# Altium schematic symbol library LimeMicroAltiumLib_schLib.SchLib: 177 symbols (part 5 of 8)
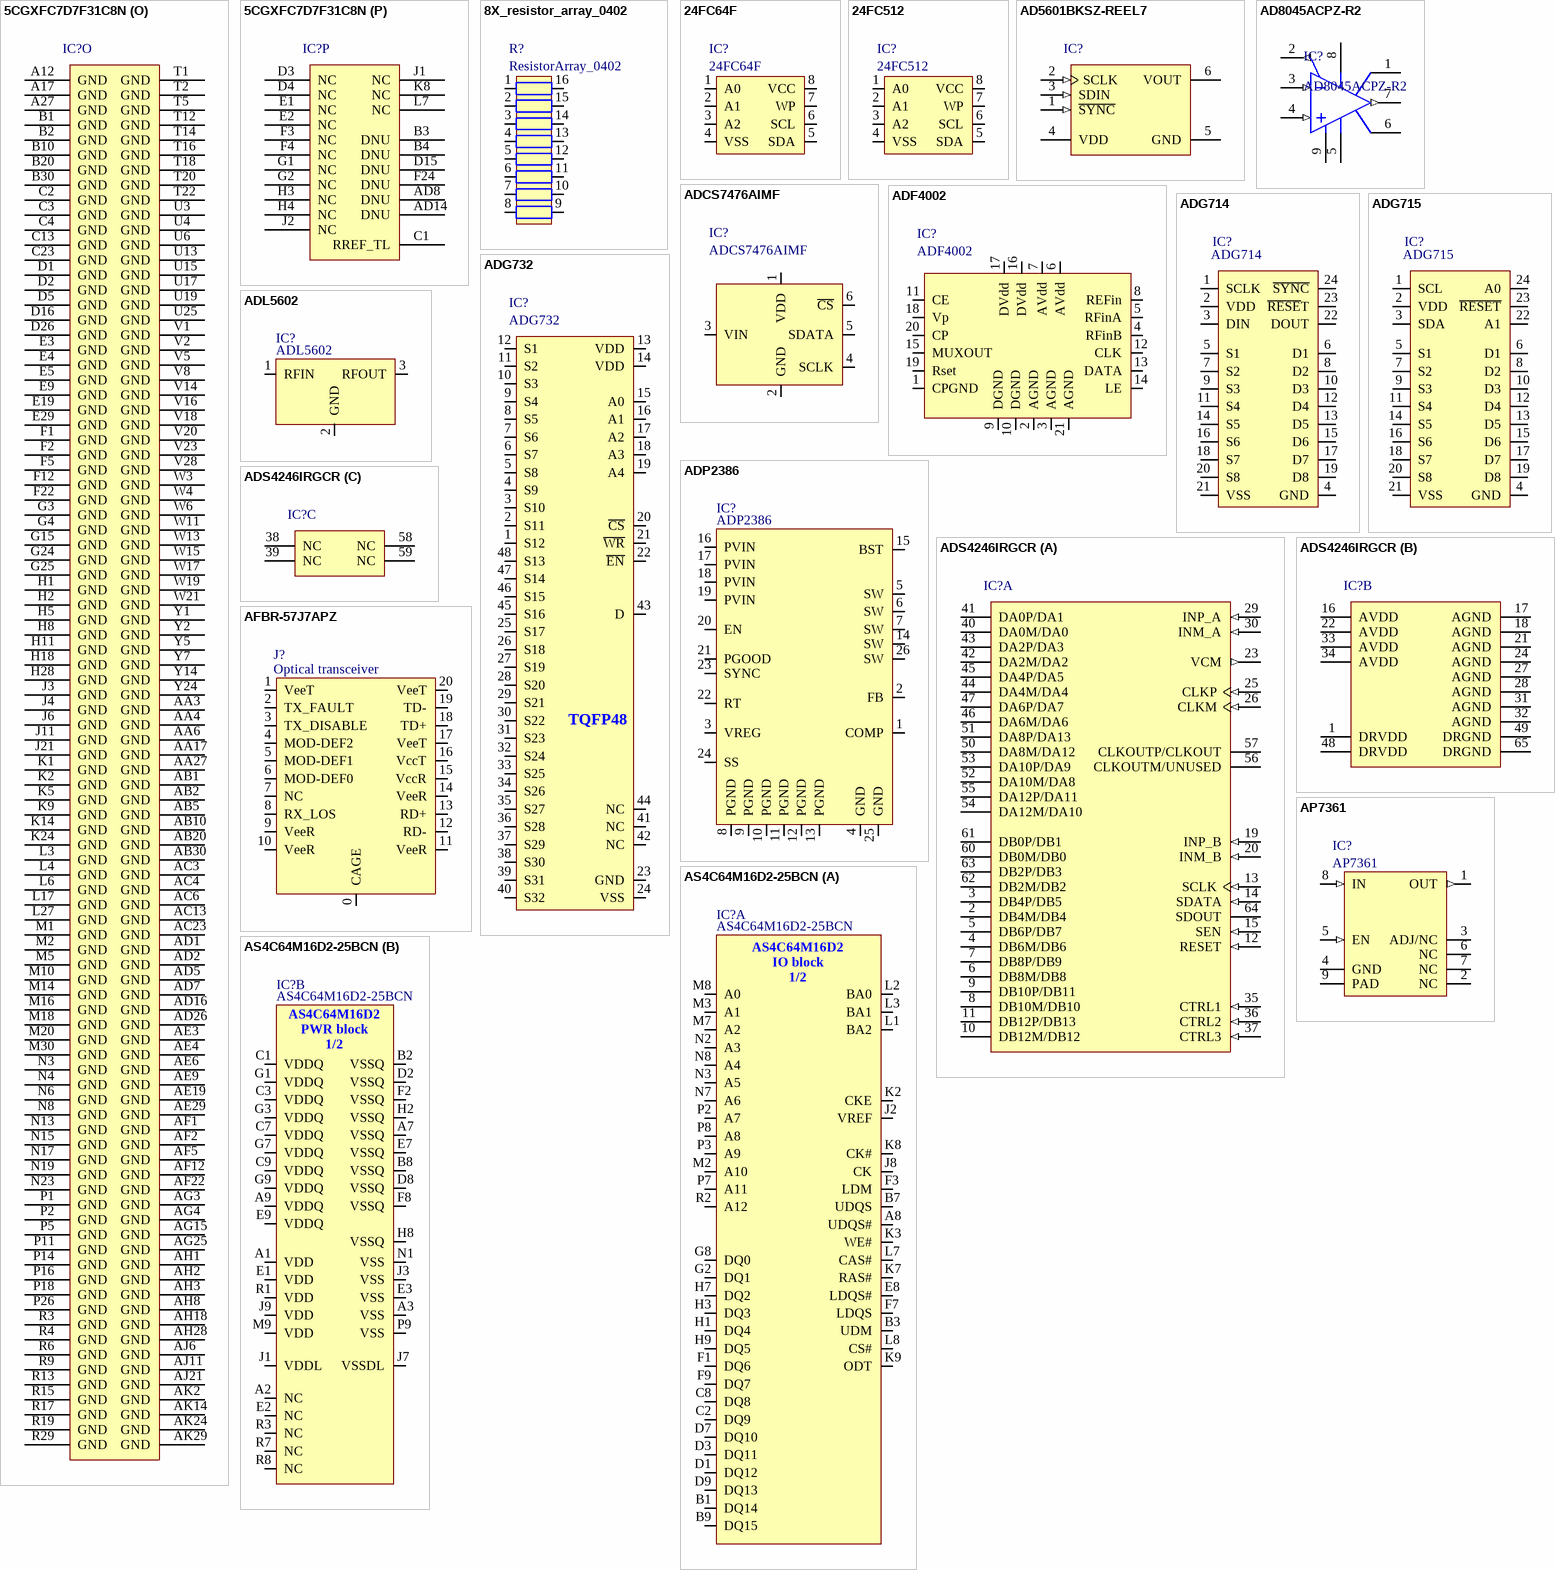
[diagram p39: symbols 5CGXFC7D7F31C8N to AS4C64M16D2-25BCN]

## ADP2386
designator IC?
Manufacturer Part Number: ADP2386ACPZN-R7; Manufacturer: Analog Devices Inc.; Function: Step-Down; Voltage - Output (Max): 18V; Synchronous Rectifier: Yes; Output Configuration: Positive; Frequency - Switching: 200kHz ~ 1.4MHz; Number of Outputs: 1; Output Type: Adjustable; Topology: Buck; Voltage - Input (Min): 4.5V; Voltage - Output (Min/Fixed): 0.6V; Voltage - Input (Max): 20V; Current - Output: 6A; Supplier 1: Digi-Key; Packaging: Digi-Reel®; RoHS: RoHS Compliant; Package / Case: 24-WFQFN Exposed Pad, CSP; Operating Temperature: -40°C ~ 125°C (TJ); Supplier Device Package: 24-LFCSP-WQ (4x4); Mounting Type: Surface Mount; Category: Integrated Circuits (ICs); Supplier Part Number 1: ADP2386ACPZN-R7DKR-ND
footprint ADP2386 (QFN, 24-Leads, Body 4,00x4,00mm, Pitch 0,50mm, 2x thermal pads, IPC Medium Density)
pins: 1 COMP, 2 FB, 3 VREG, 4 GND, 5 SW, 6 SW, 7 SW, 8 PGND, 9 PGND, 10 PGND, 11 PGND, 12 PGND, 13 PGND, 14 SW, 15 BST, 16 PVIN, 17 PVIN, 18 PVIN, 19 PVIN, 20 EN, 21 PGOOD, 22 RT, 23 SYNC, 24 SS, 25 GND, 26 SW

## ADS4246IRGCR
designator IC?
14-Bit 160 MSPS Dual Low Power ADC, -40 to 85 degC, 64-pin QFN (RGC64), Green (RoHS & no Sb/Br); Manufacturer: Texas Instruments; PartNumber: ADS4246IRGCR; # Input Channels: 2; Analog Voltage AV/DD(Max)(V): 1.9; Analog Voltage AV/DD(Min)(V): 1.7; Architecture: Pipeline; ENOB(Bits): 11.5; INL(Max)(+/-LSB): 5; Interface: Parallel CMOS, Parallel LVDS; Resolution(Bits): 14; Sample Rate (max)(SPS): 160M; SFDR(dB): 86; SINAD(dB): 72.6; SNR(dB): 72.8; SubFamily: High Speed ADC (>10MSPS); DatasheetVersion: SBAS533C; PackageVersion: 4204106/F, 11/2011; PackageReference: RGC64-7400X7400TP; PackageDescription: 64-Pin Plastic Quad Flatpack No-Lead, Body 9 x 9 mm, Pitch 0.5 mm; Supplier 1: Digi-Key; Supplier Part Number 1: ADS8372IBRHPTG4-ND; Supplier 2: Mouser; Supplier Part Number 2: 595-ADS8372IBRHPTG4; Digital Supply(Max)(V): 1.9; Digital Supply(Min)(V): 1.7; Eco-Plan: Green (RoHS & no Sb/Br); Mounting Technology: Surface Mount; ComponentLink1Description: Manufacturer URL; ComponentLink1URL: http://www.ti.com/; ComponentLink2Description: Datasheet; ComponentLink2URL: http://www.ti.com/general/docs/lit/getliterature.tsp?genericPartNumber=ADS4246&fileType=pdf; ComponentLink3Description: Package Specification; ComponentLink3URL: http://www.ti.com/litv/pdf/mpqf125e
footprint TI-RGC64-7400X7400TP_V (QFN, 64-Leads, Body 9x9mm, Pitch 0.5mm, Thermal Pad 7.4x7.4mm, TI Recommended)
part A pins: 2 DB4M/DB4 (hiz), 3 DB4P/DB5 (hiz), 4 DB6M/DB6 (hiz), 5 DB6P/DB7 (hiz), 6 DB8M/DB8 (hiz), 7 DB8P/DB9 (hiz), 8 DB10M/DB10 (hiz), 9 DB10P/DB11 (hiz), 10 DB12M/DB12 (hiz), 11 DB12P/DB13 (hiz), 12 RESET (in) "Serial interface RESET input. When using the serial interface mode, the internal registers must be initialized through a hardware RESET by applying a high pulse on this pin or by using the software reset option; refer to the (See Datasheet)", 13 SCLK (in) "This pin functions as a serial interface clock input when RESET is low. It controls the low-speed mode selection when RESET is tied high; see Table 5 for detailed information. This pin has an internal 150kohm pull-down (See Datasheet)", 14 SDATA (in) "Serial interface data input; this pin has an internal 150kohm pull-down resistor.", 15 SEN (in) "This pin functions as a serial interface enable input when RESET is low. It controls the output interface and data format selection when RESET is tied high; see Table 6 for detailed information. This pin has an internal (See Datasheet)", 19 INP_B (in) "Differential analog positive input, channel B", 20 INM_B (in) "Differential analog negative input, channel B", 23 VCM (out) "This pin outputs the common-mode voltage (0.95V) that can be used externally to bias the analog input pins", 25 CLKP (in) "Differential clock positive input", 26 CLKM (in) "Differential clock negative input", 29 INP_A (in) "Differential analog positive input, channel A", 30 INM_A (in) "Differential analog negative input, channel A", 35 CTRL1 (in) "Digital control input pins. Together, they control the various power-down modes.", 36 CTRL2 (in) "Digital control input pins. Together, they control the various power-down modes.", 37 CTRL3 (in) "Digital control input pins. Together, they control the various power-down modes.", 40 DA0M/DA0 (hiz), 41 DA0P/DA1 (hiz), 42 DA2M/DA2 (hiz), 43 DA2P/DA3 (hiz), 44 DA4M/DA4 (hiz), 45 DA4P/DA5 (hiz), 46 DA6M/DA6 (hiz), 47 DA6P/DA7 (hiz), 50 DA8M/DA12 (hiz), 51 DA8P/DA13 (hiz), 52 DA10M/DA8 (hiz), 53 DA10P/DA9 (hiz), 54 DA12M/DA10 (hiz), 55 DA12P/DA11 (hiz), 56 CLKOUTM/UNUSED (hiz), 57 CLKOUTP/CLKOUT (hiz), 60 DB0M/DB0 (hiz), 61 DB0P/DB1 (hiz), 62 DB2M/DB2 (hiz), 63 DB2P/DB3 (hiz), 64 SDOUT (hiz) "This pin functions as a serial interface register readout when the READOUT bit is enabled. When READOUT = 0, this pin is in high-impedance state."
part B pins: 1 DRVDD (power) "Output buffer supply", 16 AVDD (power) "Analog power supply", 17 AGND (power) "Analog ground", 18 AGND (power) "Analog ground", 21 AGND (power) "Analog ground", 22 AVDD (power) "Analog power supply", 24 AGND (power) "Analog ground", 27 AGND (power) "Analog ground", 28 AGND (power) "Analog ground", 31 AGND (power) "Analog ground", 32 AGND (power) "Analog ground", 33 AVDD (power) "Analog power supply", 34 AVDD (power) "Analog power supply", 48 DRVDD (power) "Output buffer supply", 49 DRGND (power) "Output buffer ground", 65 DRGND (power) "Output buffer ground"
part C pins: 38 NC "Do not connect, must be floated", 39 NC "Do not connect, must be floated", 58 NC "Do not connect, must be floated", 59 NC "Do not connect, must be floated"

## AFBR-57J7APZ
designator J?, comment Optical transceiver
AFBR-57J7APZ optical transceiver; Manufacturer: Avago Technologies US Inc.; Data Rate: 1.288 ~ 7.3728 Gb/s; Wavelength: 850nm; Connector Type: LC Duplex; Voltage - Supply: 3.3V; Supplier 1: Digi-Key; Category: Optoelectronics; Mounting Type: *; Manufacturer Part Number: AFBR-57J7APZ; RoHS: RoHS Compliant; Applications: Wireless Base Station Receiver; Supplier Part Number 1: 516-2930-ND
footprint AFBR-57J7APZ (Avago Optical Transceiver)
pins: 0 CAGE, 1 VeeT, 2 TX_FAULT, 3 TX_DISABLE, 4 MOD-DEF2, 5 MOD-DEF1, 6 MOD-DEF0, 7 NC, 8 RX_LOS, 9 VeeR, 10 VeeR, 11 VeeR, 12 RD-, 13 RD+, 14 VeeR, 15 VccR, 16 VccT, 17 VeeT, 18 TD+, 19 TD-, 20 VeeT

## AP7361
designator IC?
Manufacturer Part Number 1: AP7361-33FGE-7; Manufacturer: Diodes Incorporated; Voltage - Output: 3.3V; Regulator Topology: Positive Fixed; Current - Output: 1A; Voltage - Input: Up to 6V; Current - Limit (Min): 1.1A; Voltage - Dropout (Typical): 0.5V @ 1A; Number of Regulators: 1; Supplier 1: Digi-Key; RoHS: RoHS Compliant; Packaging: Cut Tape (CT); Category: Integrated Circuits (ICs); Operating Temperature: -40°C ~ 85°C; Package / Case: 8-UDFN Exposed Pad; Mounting Type: Surface Mount; Supplier Device Package: U-DFN3030-8; Supplier Part Number 1: AP7361-33FGE-7DICT-ND
footprint AP7361 (Low noise LDO)
pins: 1 OUT (out), 2 NC, 3 ADJ/NC, 4 GND, 5 EN (in), 6 NC, 7 NC, 8 IN (in), 9 PAD

## AS4C64M16D2-25BCN
designator IC?
Manufacturer: Alliance Memory, Inc.; Speed: 400MHz; Interface: Parallel; Memory Type: DDR2 SDRAM; Memory Size: 1G (64M x 16); Voltage - Supply: 1.7 V ~ 1.9 V; Format - Memory: RAM; Supplier 1: Digi-Key; Package / Case: 84-TFBGA; Supplier Device Package: 84-FBGA (8x12.5); Manufacturer Part Number 1: AS4C64M16D2-25BCN; RoHS: RoHS Compliant; Operating Temperature: 0°C ~ 70°C; Category: Integrated Circuits (ICs); Packaging: Tray; Supplier Part Number 1: 1450-1158-ND
footprint AS4C64M16D2
part A pins: A8 UDQS#, B1 DQ14, B3 UDM, B7 UDQS, B9 DQ15, C2 DQ9, C8 DQ8, D1 DQ12, D3 DQ11, D7 DQ10, D9 DQ13, E8 LDQS#, F1 DQ6, F3 LDM, F7 LDQS, F9 DQ7, G2 DQ1, G8 DQ0, H1 DQ4, H3 DQ3, H7 DQ2, H9 DQ5, J2 VREF, J8 CK, K2 CKE, K3 WE#, K7 RAS#, K8 CK#, K9 ODT, L1 BA2, L2 BA0, L3 BA1, L7 CAS#, L8 CS#, M2 A10, M3 A1, M7 A2, M8 A0, N2 A3, N3 A5, N7 A6, N8 A4, P2 A7, P3 A9, P7 A11, P8 A8, R2 A12
part B pins: A1 VDD (power), A2 NC, A3 VSS (power), A7 VSSQ (power), A9 VDDQ (power), B2 VSSQ (power), B8 VSSQ (power), C1 VDDQ (power), C3 VDDQ (power), C7 VDDQ (power), C9 VDDQ (power), D2 VSSQ (power), D8 VSSQ (power), E1 VDD (power), E2 NC, E3 VSS (power), E7 VSSQ (power), E9 VDDQ (power), F2 VSSQ (power), F8 VSSQ (power), G1 VDDQ (power), G3 VDDQ (power), G7 VDDQ (power), G9 VDDQ (power), H2 VSSQ (power), H8 VSSQ (power), J1 VDDL (power), J3 VSS (power), J7 VSSDL (power), J9 VDD (power), M9 VDD (power), N1 VSS (power), P9 VSS (power), R1 VDD (power), R3 NC, R7 NC, R8 NC
part A text: AS4C64M16D2 / IO block / 1/2
part B text: AS4C64M16D2 / PWR block / 1/2

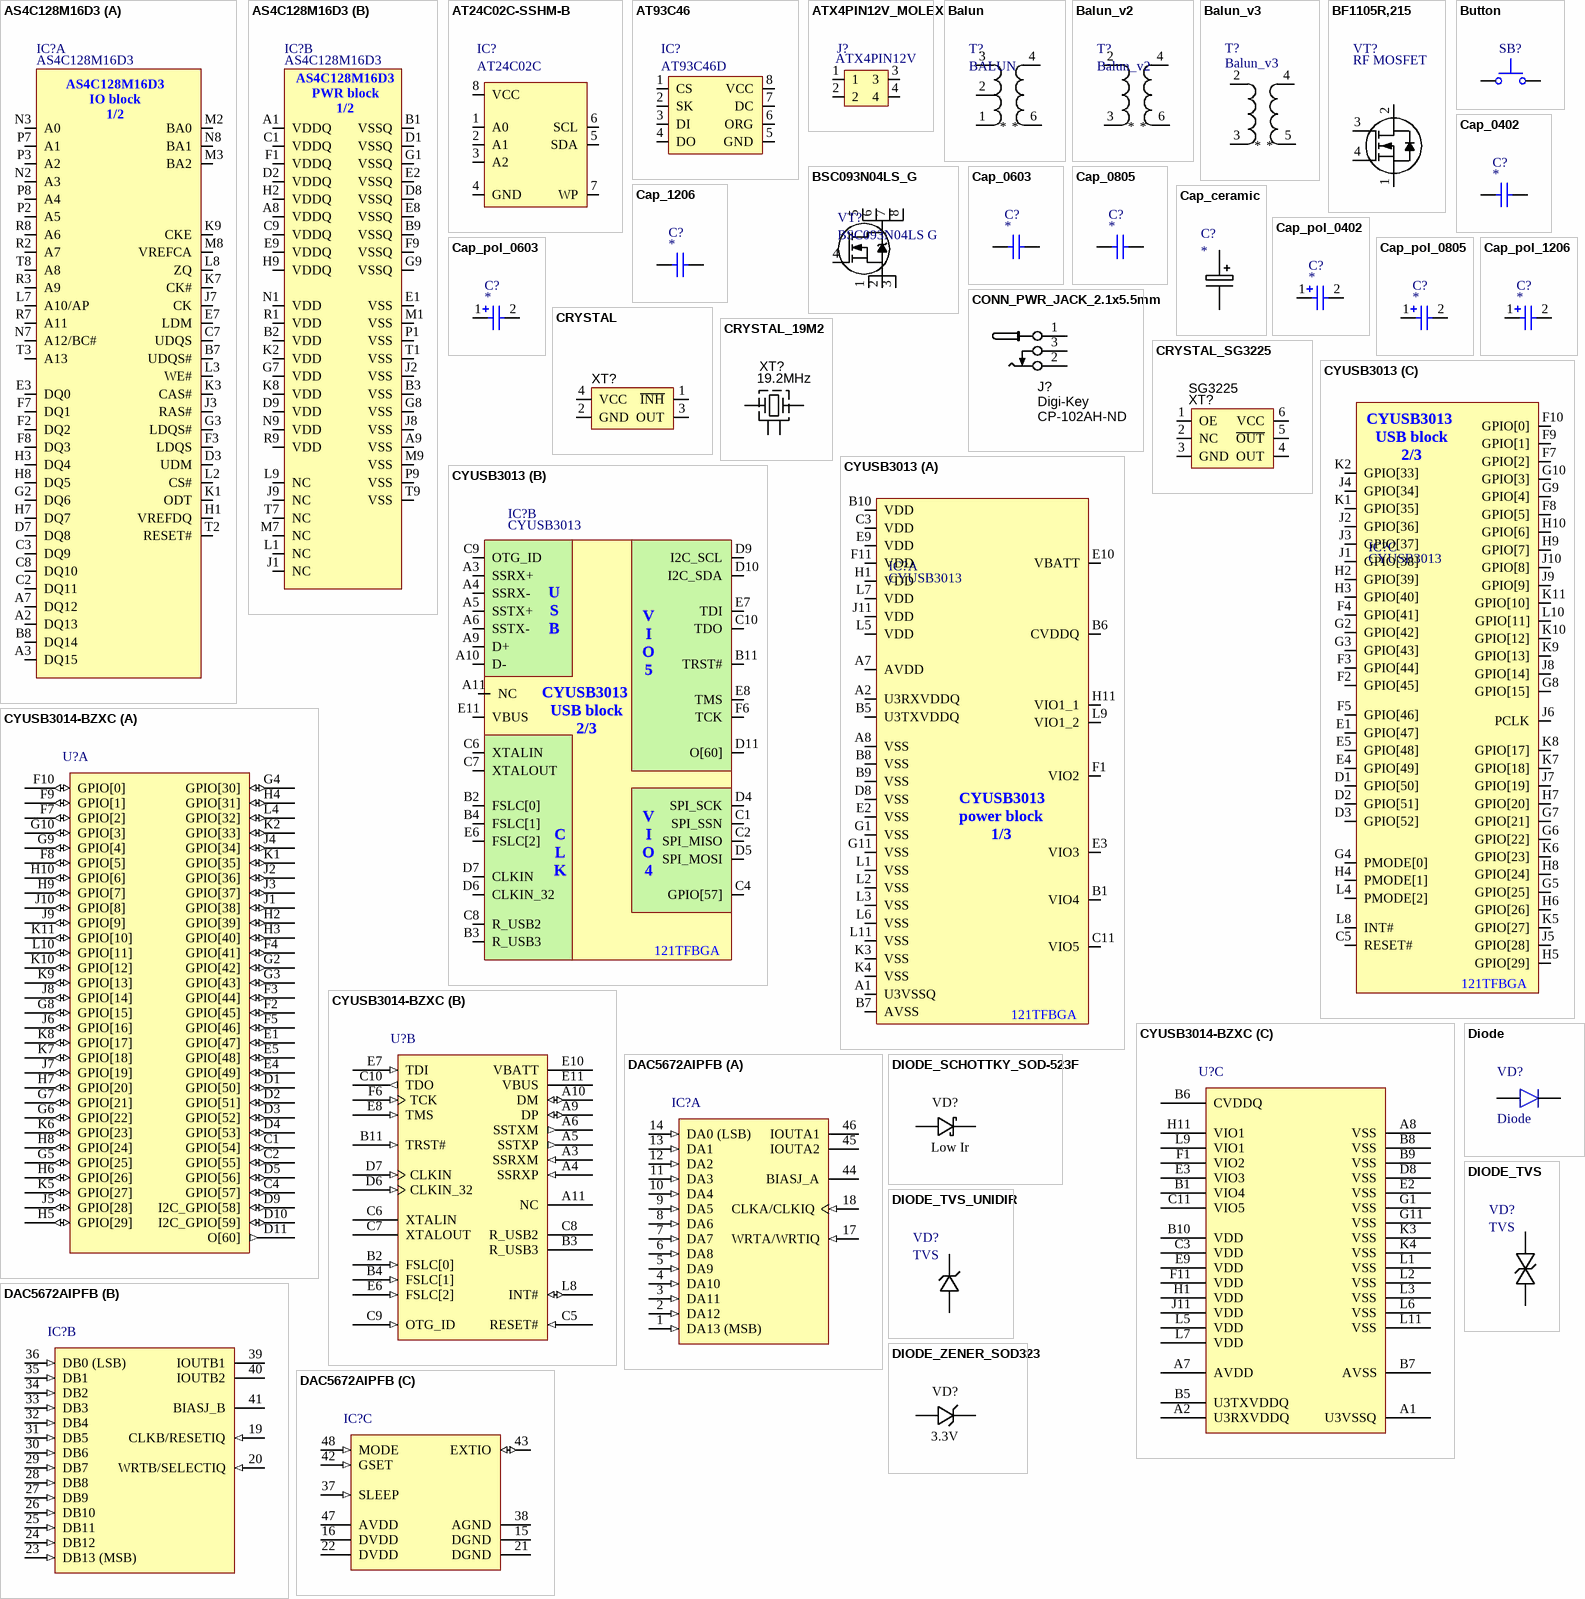
[diagram p18: symbols AS4C128M16D3 to DIODE_ZENER_SOD323]

## AS4C128M16D3
designator IC?
Manufacturer: Alliance Memory, Inc.; Memory Size: 2G (128M x 16); Interface: Parallel; Voltage - Supply: 1.425 V ~ 1.575 V; Format - Memory: RAM; Supplier 1: Digi-Key; Supplier Part Number 1: 1450-1083-ND; Supplier Device Package: 96-FBGA (13x9); Package / Case: 96-TFBGA; Supplier: Digi-Key; Category: Integrated Circuits (ICs)
part A pins: A2 DQ13, A3 DQ15, A7 DQ12, B7 UDQS#, B8 DQ14, C2 DQ11, C3 DQ9, C7 UDQS, C8 DQ10, D3 UDM, D7 DQ8, E3 DQ0, E7 LDM, F2 DQ2, F3 LDQS, F7 DQ1, F8 DQ3, G2 DQ6, G3 LDQS#, H1 VREFDQ, H3 DQ4, H7 DQ7, H8 DQ5, J3 RAS#, J7 CK, K1 ODT, K3 CAS#, K7 CK#, K9 CKE, L2 CS#, L3 WE#, L7 A10/AP, L8 ZQ, M2 BA0, M3 BA2, M8 VREFCA, N2 A3, N3 A0, N7 A12/BC#, N8 BA1, P2 A5, P3 A2, P7 A1, P8 A4, R2 A7, R3 A9, R7 A11, R8 A6, T2 RESET#, T3 A13, T8 A8
part B pins: A1 VDDQ (power), A8 VDDQ (power), A9 VSS (power), B1 VSSQ (power), B2 VDD (power), B3 VSS (power), B9 VSSQ (power), C1 VDDQ (power), C9 VDDQ (power), D1 VSSQ (power), D2 VDDQ (power), D8 VSSQ (power), D9 VDD (power), E1 VSS (power), E2 VSSQ (power), E8 VSSQ (power), E9 VDDQ (power), F1 VDDQ (power), F9 VSSQ (power), G1 VSSQ (power), G7 VDD (power), G8 VSS (power), G9 VSSQ (power), H2 VDDQ (power), H9 VDDQ (power), J1 NC, J2 VSS (power), J8 VSS (power), J9 NC, K2 VDD (power), K8 VDD (power), L1 NC, L9 NC, M1 VSS (power), M7 NC, M9 VSS (power), N1 VDD (power), N9 VDD (power), P1 VSS (power), P9 VSS (power), R1 VDD (power), R9 VDD (power), T1 VSS (power), T7 NC, T9 VSS (power)
part A text: AS4C128M16D3 / IO block / 1/2
part B text: AS4C128M16D3 / PWR block / 1/2

## AT24C02C-SSHM-B
designator IC?, comment AT24C02C
Manufacturer: ATMEL; Manufacturer Part Number 1: AT24C02C-SSHM-T; Supplier 1: Farnell; Supplier Part Number 1: 2345577
footprint SOIC127P600-8DL_v2 (8-Pin Small Outline Integrated Circuit 1.27 mm Pitch)
pins: 1 A0, 2 A1, 3 A2, 4 GND, 5 SDA, 6 SCL, 7 WP, 8 VCC

## AT93C46
designator IC?, comment AT93C46D
Manufacturer: Atmel; Manufacturer Part Number: AT93C46DN-SH-T; Voltage - Supply: 1.8 V ~ 5.5 V; Format - Memory: EEPROMs - Serial; Memory Size: 1K (128 x 8 or 64 x 16); Speed: 250kHz, 1MHz, 2MHz; Supplier 1: Digi-Key; Category: Integrated Circuits (ICs); Supplier Device Package: 8-SOIC; Supplier Part Number: AT93C46DN-SH-TCT-ND
footprint MIC37122YM TR_SO8 (SOIC, 8-Leads, Body 4,90x3,90mm, Pitch 1,27mm, IPC Medium Density)
pins: 1 CS, 2 SK, 3 DI, 4 DO, 5 GND, 6 ORG, 7 DC, 8 VCC

## ATX4PIN12V_MOLEX
designator J?, comment ATX4PIN12V
Manufacturer Part Number: 0039281043; Manufacturer: Molex Inc.; Number of Positions Loaded: All; Pitch: 0.165" (4.20mm); Connector Type: Header, Shrouded; Number of Positions: 4; Supplier 1: Digi-Key; RoHS: RoHS Compliant; Packaging: Bulk; Contact Type: Male Pin; Category: Connectors, Interconnects; Features: -; Number of Rows: 2; Row Spacing: 0.165" (4.20mm); Termination: Solder; Contact Finish Thickness: 35µin (0.90µm); Mounting Type: Through Hole; Fastening Type: Locking Ramp; Color: Natural; Contact Finish: Tin; Contact Mating Length: -; Supplier Part Number 1: WM3801-ND
footprint ATX4PIN12V_MOLEX
pins: 1, 2, 3, 4

## Balun
designator T?, comment BALUN
pins: 1, 2, 3, 4, 6

## Balun_v2
designator T?
pins: 2, 3, 4, 6

## Balun_v3
designator T?
pins: 2, 3, 4, 5

## BF1105R,215
designator VT?, comment RF MOSFET
Manufacturer Part Number 1: BF1105R,215; Manufacturer: NXP Semiconductors; Part Description: RF MOSFET Transistors Trans MOSFET N-CH 7V 0.03A 4pin(3+Tab); Voltage - Rated: 7V; Noise Figure: 1.7dB; Current Rating: 30mA; Gain: 20dB; Transistor Type: N-Channel Dual Gate; Frequency: 800MHz; Voltage - Test: 5V; Supplier 1: Digi-Key; RoHS: RoHS Compliant; Supplier Device Package: SOT-143R; Power - Output: -; Current - Test: -; Packaging: Digi-Reel®; Package / Case: SOT-143R; Category: Discrete Semiconductor Products; Supplier Part Number 1: 568-12530-6-ND
footprint BF1105R_SOT143R4 (RF MOSFET Transistors Trans MOSFET N-CH 7V 0.03A 4pin(3+Tab). SOT-143R-4 package)
pins: 1 S, 2 D, 3 G2, 4 G1

## BSC093N04LS_G
designator VT?, comment BSC093N04LS G
Manufacturer: Infineon Technologies; Power - Max: 35W; Vgs(th) (Max) @ Id: 2V @ 14µA; Current - Continuous Drain (Id) @ 25°C: 13A (Ta), 49A (Tc); FET Type: MOSFET N-Channel, Metal Oxide; Rds On (Max) @ Id, Vgs: 9.3 mOhm @ 40A, 10V; Gate Charge (Qg) @ Vgs: 24nC @ 10V; Input Capacitance (Ciss) @ Vds: 1900pF @ 20V; Drain to Source Voltage (Vdss): 40V; Supplier 1: Digi-Key; Category: Discrete Semiconductor Products; Manufacturer Part Number: BSC093N04LS G; Package / Case: 8-PowerTDFN; Supplier Part Number 1: BSC093N04LS GDKR-ND
footprint BSC093N04LS_G (SON, 8-Leads, Body 5,32x6,15mm, Pitch 1,27mm, Thermal Pad 3,60x4,05mm, IPC Medium Density)
pins: 1 S, 2 S, 3 S, 4 G, 5 D, 6 D, 7 D, 8 D

## Button
designator SB?  (value not drawn)
pins: 1, 2

## Cap_0402
designator C?
Value: *
footprint CAP0402 (Chip Capacitor, Body 1.0x0.5mm, 0402, IPC Medium Density)
pins: 1, 2

## Cap_0603
designator C?
Value: *
footprint CAP0603 (Chip Capacitor, Body 1.6x0.8mm, 0603, IPC Medium Density)
pins: 1, 2

## Cap_0805
designator C?
Value: *
footprint CAP0805 (Chip Capacitor, Body 2.0x1.2mm, 0805, IPC Medium Density)
pins: 1, 2

## Cap_1206
designator C?
Value: *
footprint CAP1206 (Chip Capacitor, Body 3.2x1.6mm, 1206, IPC Medium Density)
pins: 1, 2

## Cap_ceramic
designator C?
Value: *
footprint Cap_pol_100uF
pins: 1, 2

## Cap_pol_0402
designator C?
Value: *
pins: 1, 2

## Cap_pol_0603
designator C?
Value: *
pins: 1, 2

## Cap_pol_0805
designator C?
Value: *
pins: 1, 2

## Cap_pol_1206
designator C?
Value: *
pins: 1, 2

## CONN_PWR_JACK_2.1x5.5mm
designator J?  Supplier 1: Digi-Key  Supplier Part Number 1: CP-102AH-ND  (hidden comment: *)
Power Connector, THT, 2.1mm ID, 5.5mm OD; Manufacturer 1: CUI Inc; Manufacturer Part Number 1: PJ-102AH; Category: Connectors; Mounting Type: Through Hole; Package / Case: PCB mount; Value: 2.1mm ID, 5.5mm OD
footprint CONN_PWR_JACK_2.1x5.5mm (Power Connector, 2.1mm ID, 5.5mm OD)
pins: 1, 2, 3

## CRYSTAL
designator XT?
Oscillator Crystal
footprint CRYSTAL_4-LCC_v3 (SMD Crystal 4-lead leadless package)
pins: 1 ~{INH}, 2 GND, 3 OUT, 4 VCC

## CRYSTAL_19M2
designator XT?, comment 19.2MHz
Oscillator Crystal 27.12 MHz 10ppm; Manufacturer 1: TXC CORPORATION; Manufacturer Part Number 1: 7M-27.120MEEQ-T; Ratings: 4.9152 MHz Crystal; Load Capacitance: 10pF; Operating Mode: Fundamental; Package / Case: 2.5mm pitch; Material: Ceramic; Supplier 1: Digi-Key; Supplier Part Number 1: 887-1329-1-ND; Type: MHz Crystal; Frequency Stability: ±10ppm; Frequency Tolerance: ±10ppm; Operating Temperature: -20°C ~ 70°C; Mounting Type: Surface Mount; Size / Dimension: 0.126" L x 0.098" W (3.20mm x 2.50mm); ComponentLink1URL: http://www.txccrystal.com/images/pdf/7m-accuracy.pdf; ComponentLink1Description: http://www.txccrystal.com/images/pdf/7m-accuracy.pdf
footprint CRYSTAL_4-LCC (SMD Crystal 4-lead leadless package)
pins: 1 X, 2 GND, 3 X, 4 GND

## CRYSTAL_SG3225
designator XT?, comment SG3225
Oscillator Crystal; Manufacturer Part Number 1: SG3225EAN 100.000000M-KEGA3; Manufacturer: EPSON; Voltage - Supply: 2.5 V ~ 3.3 V; Output: LVPECL; Function: Tri-State (Output Enable); Frequency Stability: ±30ppm; Frequency: 100MHz; Current - Supply (Max): 65mA; Current - Supply (Disable) (Max): 20mA; Supplier 1: Digi-Key; Category: Crystals and Oscillators; Packaging: Cut Tape (CT); Type: XO (Standard); RoHS: RoHS Compliant; Package / Case: 6-SMD, No Lead (DFN, LCC); Height: 0.047" (1.20mm); Mounting Type: Surface Mount; Ratings: -; Operating Temperature: -40°C ~ 85°C; Size / Dimension: 0.126" L x 0.098" W (3.20mm x 2.50mm); Supplier Part Number 1: SER3921CT-ND
footprint CRYSTAL_6-LCC (SMD Crystal 6-lead leadless package)
pins: 1 OE, 2 NC, 3 GND, 4 OUT, 5 ~{OUT}, 6 VCC (power)

## CYUSB3013
designator IC?
Cypress USB3.0 chip; Voltage - Supply: 1.15 V ~ 1.25 V; Supplier 1: Digi-Key; Supplier Part Number 1: 428-3181-ND; Package / Case: 121-TFBGA
footprint CYUSB3013 (BGA, 121-Leads, Body 10,50x10,50mmx1,10mm, Pitch 0,80mm)
part A pins: A1 U3VSSQ (power), A2 U3RXVDDQ (power), A7 AVDD (power), A8 VSS (power), B1 VIO4 (power), B5 U3TXVDDQ (power), B6 CVDDQ (power), B7 AVSS (power), B8 VSS (power), B9 VSS (power), B10 VDD (power), C3 VDD (power), C11 VIO5 (power), D8 VSS (power), E2 VSS (power), E3 VIO3 (power), E9 VDD (power), E10 VBATT (power), F1 VIO2 (power), F11 VDD (power), G1 VSS (power), G11 VSS (power), H1 VDD (power), H11 VIO1_1 (power), J11 VDD (power), K3 VSS (power), K4 VSS (power), L1 VSS (power), L2 VSS (power), L3 VSS (power), L5 VDD (power), L6 VSS (power), L7 VDD (power), L9 VIO1_2 (power), L11 VSS (power)
part B pins: A3 SSRX+, A4 SSRX-, A5 SSTX+, A6 SSTX-, A9 D+, A10 D-, A11 NC, B2 FSLC[0], B3 R_USB3, B4 FSLC[1], B11 TRST#, C1 SPI_SSN, C2 SPI_MISO, C4 GPIO[57], C6 XTALIN, C7 XTALOUT, C8 R_USB2, C9 OTG_ID, C10 TDO, D4 SPI_SCK, D5 SPI_MOSI, D6 CLKIN_32 (in), D7 CLKIN (in), D9 I2C_SCL, D10 I2C_SDA, D11 O[60], E6 FSLC[2], E7 TDI, E8 TMS, E11 VBUS (power), F6 TCK
part C pins: C5 RESET#, D1 GPIO[50], D2 GPIO[51], D3 GPIO[52], E1 GPIO[47], E4 GPIO[49], E5 GPIO[48], F2 GPIO[45], F3 GPIO[44], F4 GPIO[41], F5 GPIO[46], F7 GPIO[2], F8 GPIO[5], F9 GPIO[1], F10 GPIO[0], G2 GPIO[42], G3 GPIO[43], G4 PMODE[0], G5 GPIO[25], G6 GPIO[22], G7 GPIO[21], G8 GPIO[15], G9 GPIO[4], G10 GPIO[3], H2 GPIO[39], H3 GPIO[40], H4 PMODE[1], H5 GPIO[29], H6 GPIO[26], H7 GPIO[20], H8 GPIO[24], H9 GPIO[7], H10 GPIO[6], J1 GPIO[38], J2 GPIO[36], J3 GPIO[37], J4 GPIO[34], J5 GPIO[28], J6 PCLK (in), J7 GPIO[19], J8 GPIO[14], J9 GPIO[9], J10 GPIO[8], K1 GPIO[35], K2 GPIO[33], K5 GPIO[27], K6 GPIO[23], K7 GPIO[18], K8 GPIO[17], K9 GPIO[13], K10 GPIO[12], K11 GPIO[10], L4 PMODE[2], L8 INT#, L10 GPIO[11]
part A text: CYUSB3013 / power block / 1/3; 121TFBGA
part B text: U / S / B; V / I / O / 5; CYUSB3013 / USB block / 2/3; C / L / K; V / I / O / 4; 121TFBGA
part C text: CYUSB3013 / USB block / 2/3; 121TFBGA

## CYUSB3014-BZXC
designator U?
EZ-USB(R) FX3: SuperSpeed USB Controller, 512 KB, 60 I/Os, 0 to 70 degC, 121-Pin FBGA (BZX121); Manufacturer: Cypress; PartNumber: CYUSB3014-BZXC; CPU Core: ARM926 EJ-S; Max. Operating Voltage (V): 1.25; Memory Architecture: SRAM; Memory Size (KB): 512; Min. Operating Voltage (V): 1.15; No. of I/Os: 60; DatasheetVersion: Rev. *O; PackageVersion: Rev. *D; PackageReference: BZX121; PackageDescription: 121-Ball FBGA, Body 10 x 10 mm, Pitch 0.8 mm; Supplier 1: Digi-Key; Supplier Part Number 1: 428-3182-ND; Supplier 2: Farnell; Supplier Part Number 2: 2355789; Supplier 3: Newark; Supplier Part Number 3: 54W7901; Supplier 4: Mouser; Supplier Part Number 4: 727-CYUSB3014-BZXC; Max. Operating Temp. (degreesC): 70; Min. Operating Temp. (degreesC): 0; RoHS: Pb-Free; Mounting Technology: Surface Mount; Code_JEDEC: PUB 95; ComponentLink1Description: Manufacturer URL; ComponentLink1URL: http://www.cypress.com/; ComponentLink2Description: Datasheet; ComponentLink2URL: http://www.cypress.com/?docID=49087; ComponentLink3Description: Package Specification; ComponentLink3URL: http://www.cypress.com/?docID=45795
footprint CYP-BZX121 (BGA, 121-Balls, Body 10x10mm, Pitch 0.8mm)
part A pins: C1 GPIO[54] (io), C2 GPIO[55] (io), C4 GPIO[57] (io), D1 GPIO[50] (io), D2 GPIO[51] (io), D3 GPIO[52] (io), D4 GPIO[53] (io), D5 GPIO[56] (io), D9 I2C_GPIO[58] (io), D10 I2C_GPIO[59] (io), D11 O[60] (out), E1 GPIO[47] (io), E4 GPIO[49] (io), E5 GPIO[48] (io), F2 GPIO[45] (io), F3 GPIO[44] (io), F4 GPIO[41] (io), F5 GPIO[46] (io), F7 GPIO[2] (io), F8 GPIO[5] (io), F9 GPIO[1] (io), F10 GPIO[0] (io), G2 GPIO[42] (io), G3 GPIO[43] (io), G4 GPIO[30] (io), G5 GPIO[25] (io), G6 GPIO[22] (io), G7 GPIO[21] (io), G8 GPIO[15] (io), G9 GPIO[4] (io), G10 GPIO[3] (io), H2 GPIO[39] (io), H3 GPIO[40] (io), H4 GPIO[31] (io), H5 GPIO[29] (io), H6 GPIO[26] (io), H7 GPIO[20] (io), H8 GPIO[24] (io), H9 GPIO[7] (io), H10 GPIO[6] (io), J1 GPIO[38] (io), J2 GPIO[36] (io), J3 GPIO[37] (io), J4 GPIO[34] (io), J5 GPIO[28] (io), J6 GPIO[16] (io), J7 GPIO[19] (io), J8 GPIO[14] (io), J9 GPIO[9] (io), J10 GPIO[8] (io), K1 GPIO[35] (io), K2 GPIO[33] (io), K5 GPIO[27] (io), K6 GPIO[23] (io), K7 GPIO[18] (io), K8 GPIO[17] (io), K9 GPIO[13] (io), K10 GPIO[12] (io), K11 GPIO[10] (io), L4 GPIO[32] (io), L10 GPIO[11] (io)
part B pins: A3 SSRXM (in), A4 SSRXP (in), A5 SSTXP (out), A6 SSTXM (out), A9 DP (io), A10 DM (io), A11 NC, B2 FSLC[0] (in), B3 R_USB3, B4 FSLC[1] (in), B11 TRST# (in), C5 RESET# (in), C6 XTALIN, C7 XTALOUT, C8 R_USB2, C9 OTG_ID (in), C10 TDO (out), D6 CLKIN_32 (in), D7 CLKIN (in), E6 FSLC[2] (in), E7 TDI (in), E8 TMS (in), E10 VBATT (power), E11 VBUS (power), F6 TCK (in), L8 INT# (io)
part C pins: A1 U3VSSQ (power), A2 U3RXVDDQ (power), A7 AVDD (power), A8 VSS (power), B1 VIO4 (power), B5 U3TXVDDQ (power), B6 CVDDQ (power), B7 AVSS (power), B8 VSS (power), B9 VSS (power), B10 VDD (power), C3 VDD (power), C11 VIO5 (power), D8 VSS (power), E2 VSS (power), E3 VIO3 (power), E9 VDD (power), F1 VIO2 (power), F11 VDD (power), G1 VSS (power), G11 VSS (power), H1 VDD (power), H11 VIO1 (power), J11 VDD (power), K3 VSS (power), K4 VSS (power), L1 VSS (power), L2 VSS (power), L3 VSS (power), L5 VDD (power), L6 VSS (power), L7 VDD (power), L9 VIO1 (power), L11 VSS (power)

## DAC5672AIPFB
designator IC?
14-Bit 275 MSPS Dual Digital to Analog Converter, -40 to 85 degC, 48-pin QFP (PFB48), Green (RoHS & no Sb/Br); Manufacturer: Texas Instruments; PartNumber: DAC5672AIPFB; DAC Channels: 2; DNL(Max)(+/-LSB): 3; INL(Max)(+/-LSB): 4; Interface: Parallel CMOS; Power Consumption(Typ)(mW): 330; Resolution(Bits): 14; Settling Time(us): 0.02; SFDR(dB): 84; SNR(dB): 77; SubFamily: High Speed DAC (>10MSPS); DatasheetVersion: SLAS528A; PackageVersion: 4073176/B, 10/1996; PackageReference: PFB48; PackageDescription: 48-Pin Plastic Flat Pack, Body 7 x 7 mm, Pitch 0.5 mm; Supplier 1: Digi-Key; Supplier Part Number 1: 296-22616-ND; Supplier 2: Newark; Supplier Part Number 2: 58M0323; Supplier 3: Mouser; Supplier Part Number 3: 595-DAC5672AIPFB; Eco-Plan: Green (RoHS & no Sb/Br); Mounting Technology: Surface Mount; Code_JEDEC: MS-026; ComponentLink1Description: Manufacturer URL; ComponentLink1URL: http://www.ti.com/; ComponentLink2Description: Datasheet; ComponentLink2URL: http://www.ti.com/general/docs/lit/getliterature.tsp?genericPartNumber=DAC5672A&fileType=pdf; ComponentLink3Description: Package Specification; ComponentLink3URL: http://www.ti.com/lit/ml/mtqf019a/mtqf019a.pdf
footprint TI-PFB48_L (QFP, 48-Leads, Body 7x7mm, Pitch 0.5mm, IPC High Density)
footprint TI-PFB48_L (QFP, 48-Leads, Body 7x7mm, Pitch 0.5mm, IPC High Density)
footprint TI-PFB48_M (QFP, 48-Leads, Body 7x7mm, Pitch 0.5mm, IPC Low Density)
part A pins: 1 DA13 (MSB) (in) "Data port A. DA13 is MSB and DA0 is LSB. Internal pulldown.", 2 DA12 (in) "Data port A. DA13 is MSB and DA0 is LSB. Internal pulldown.", 3 DA11 (in) "Data port A. DA13 is MSB and DA0 is LSB. Internal pulldown.", 4 DA10 (in) "Data port A. DA13 is MSB and DA0 is LSB. Internal pulldown.", 5 DA9 (in) "Data port A. DA13 is MSB and DA0 is LSB. Internal pulldown.", 6 DA8 (in) "Data port A. DA13 is MSB and DA0 is LSB. Internal pulldown.", 7 DA7 (in) "Data port A. DA13 is MSB and DA0 is LSB. Internal pulldown.", 8 DA6 (in) "Data port A. DA13 is MSB and DA0 is LSB. Internal pulldown.", 9 DA5 (in) "Data port A. DA13 is MSB and DA0 is LSB. Internal pulldown.", 10 DA4 (in) "Data port A. DA13 is MSB and DA0 is LSB. Internal pulldown.", 11 DA3 (in) "Data port A. DA13 is MSB and DA0 is LSB. Internal pulldown.", 12 DA2 (in) "Data port A. DA13 is MSB and DA0 is LSB. Internal pulldown.", 13 DA1 (in) "Data port A. DA13 is MSB and DA0 is LSB. Internal pulldown.", 14 DA0 (LSB) (in) "Data port A. DA13 is MSB and DA0 is LSB. Internal pulldown.", 17 WRTA/WRTIQ (in) "Input write signal for PORT A (WRTIQ in interleaving mode)", 18 CLKA/CLKIQ (in) "Clock input for DACA, CLKIQ in interleaved mode", 44 BIASJ_A "Full-scale output current bias for DACA", 45 IOUTA2 (hiz) "DACA complementary current output. Full-scale with all bits of DA low.", 46 IOUTA1 (hiz) "DACA current output. Full-scale with all bits of DA high."
part B pins: 19 CLKB/RESETIQ (in) "Clock input for DACB, RESETIQ in interleaved mode", 20 WRTB/SELECTIQ (in) "Input write signal for PORT B (SELECTIQ in interleaving mode)", 23 DB13 (MSB) (in) "Data port B. DB13 is MSB and DB0 is LSB. Internal pulldown.", 24 DB12 (in) "Data port B. DB13 is MSB and DB0 is LSB. Internal pulldown.", 25 DB11 (in) "Data port B. DB13 is MSB and DB0 is LSB. Internal pulldown.", 26 DB10 (in) "Data port B. DB13 is MSB and DB0 is LSB. Internal pulldown.", 27 DB9 (in) "Data port B. DB13 is MSB and DB0 is LSB. Internal pulldown.", 28 DB8 (in) "Data port B. DB13 is MSB and DB0 is LSB. Internal pulldown.", 29 DB7 (in) "Data port B. DB13 is MSB and DB0 is LSB. Internal pulldown.", 30 DB6 (in) "Data port B. DB13 is MSB and DB0 is LSB. Internal pulldown.", 31 DB5 (in) "Data port B. DB13 is MSB and DB0 is LSB. Internal pulldown.", 32 DB4 (in) "Data port B. DB13 is MSB and DB0 is LSB. Internal pulldown.", 33 DB3 (in) "Data port B. DB13 is MSB and DB0 is LSB. Internal pulldown.", 34 DB2 (in) "Data port B. DB13 is MSB and DB0 is LSB. Internal pulldown.", 35 DB1 (in) "Data port B. DB13 is MSB and DB0 is LSB. Internal pulldown.", 36 DB0 (LSB) (in) "Data port B. DB13 is MSB and DB0 is LSB. Internal pulldown.", 39 IOUTB1 (hiz) "DACB current output. Full-scale with all bits of DB high.", 40 IOUTB2 (hiz) "DACB complementary current output. Full-scale with all bits of DB low.", 41 BIASJ_B "Full-scale output current bias for DACB"
part C pins: 15 DGND (power) "Digital ground", 16 DVDD (power) "Digital supply voltage", 21 DGND (power) "Digital ground", 22 DVDD (power) "Digital supply voltage", 37 SLEEP (in) "Sleep function control input: H - DAC in power-down mode, L - DAC in operating mode. Internal pulldown.", 38 AGND (power) "Analog ground", 42 GSET (in) "Gain-setting mode: H - 1 resistor, L - 2 resistors. Internal pullup.", 43 EXTIO (io) "Internal reference output (bypass with 0.1 uF to AGND) or external reference input", 47 AVDD (power) "Analog supply voltage", 48 MODE (in) "Mode Select: H - Dual Bus, L - Interleaved. Internal pullup."

## Diode
designator VD?
footprint DIODE
pins: A, K

## DIODE_SCHOTTKY_SOD-523F
designator VD?, comment Low Ir
Diode Schottky SMD SOD-523F
footprint SOD523F (SOD-523F; 2 Leads; Body 1.3 x 0.9 mm, (LxW))
pins: A, C K

## DIODE_TVS
designator VD?, comment TVS
footprint SMC30J20CA
pins: A, K

## DIODE_TVS_UNIDIR
designator VD?, comment TVS
pins: A, K

## DIODE_ZENER_SOD323
designator VD?, comment 3.3V
Diode Zener SMD SOD-323; Capacitance @ Vr, F: 7pF @ 10V, 1MHz; Voltage - Forward (Vf) (Max) @ If: 800mV @ 100mA; Current - Average Rectified (Io): 100mA; Diode Type: Schottky; Current - Reverse Leakage @ Vr: 1µA @ 25V; Voltage - DC Reverse (Vr) (Max): 30V; Supplier 1: Digi-Key; Category: Discrete Semiconductor Products; Supplier Device Package: SOD-323; Supplier Part Number 1: CMDSH-3 CT-ND
footprint SOD323 (SOD-323; 2 Leads; Body 1.8 x 1.35 mm, (LxW))
pins: A, K

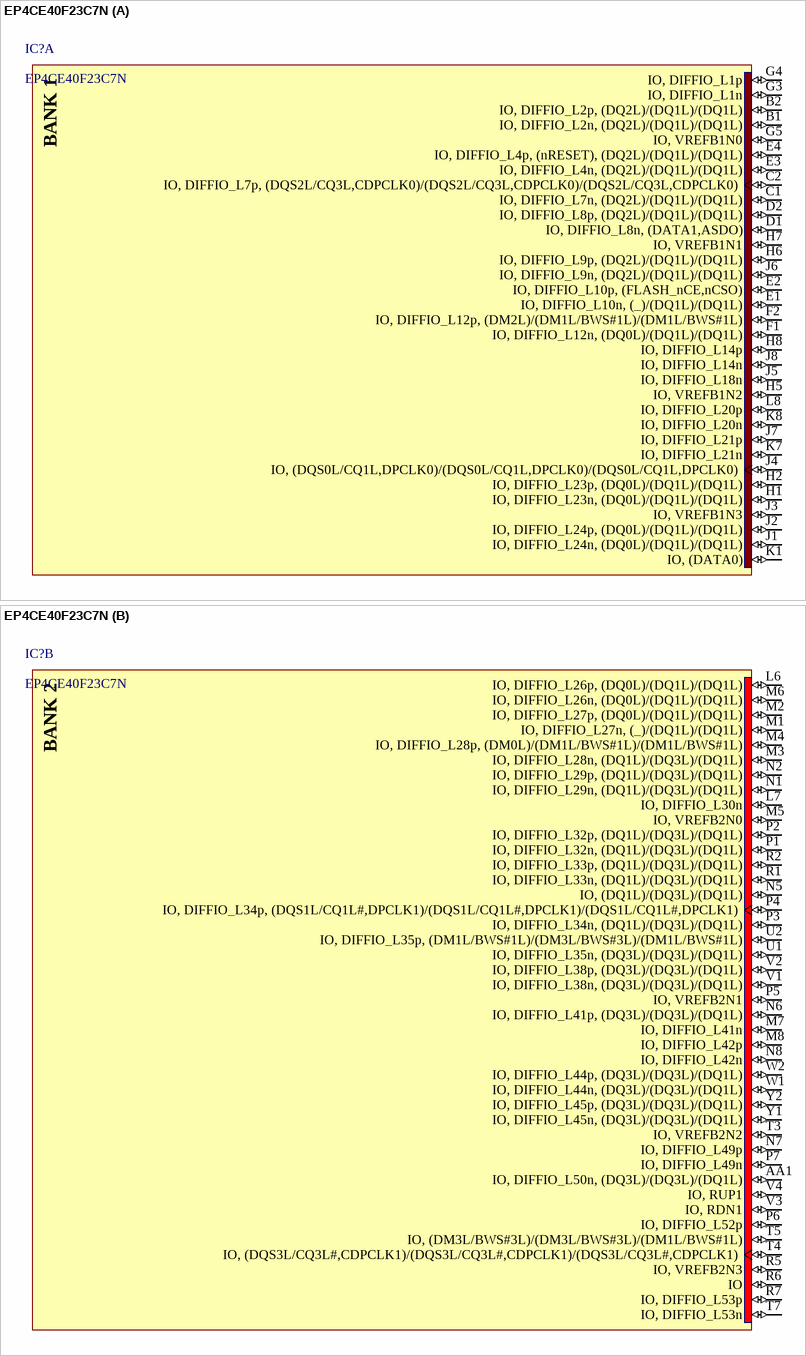
[diagram p19: symbol EP4CE40F23C7N]

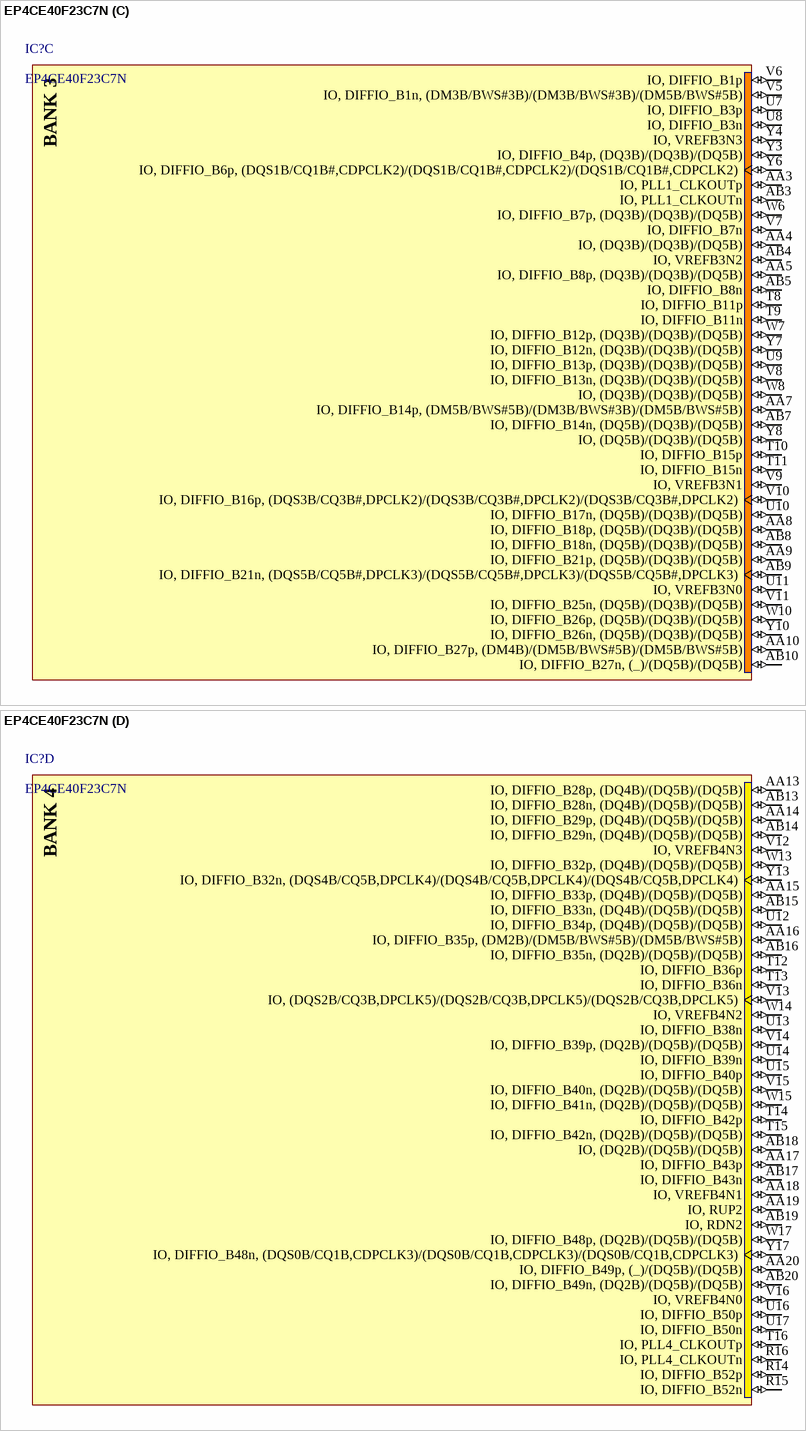
[diagram p20: symbol EP4CE40F23C7N]

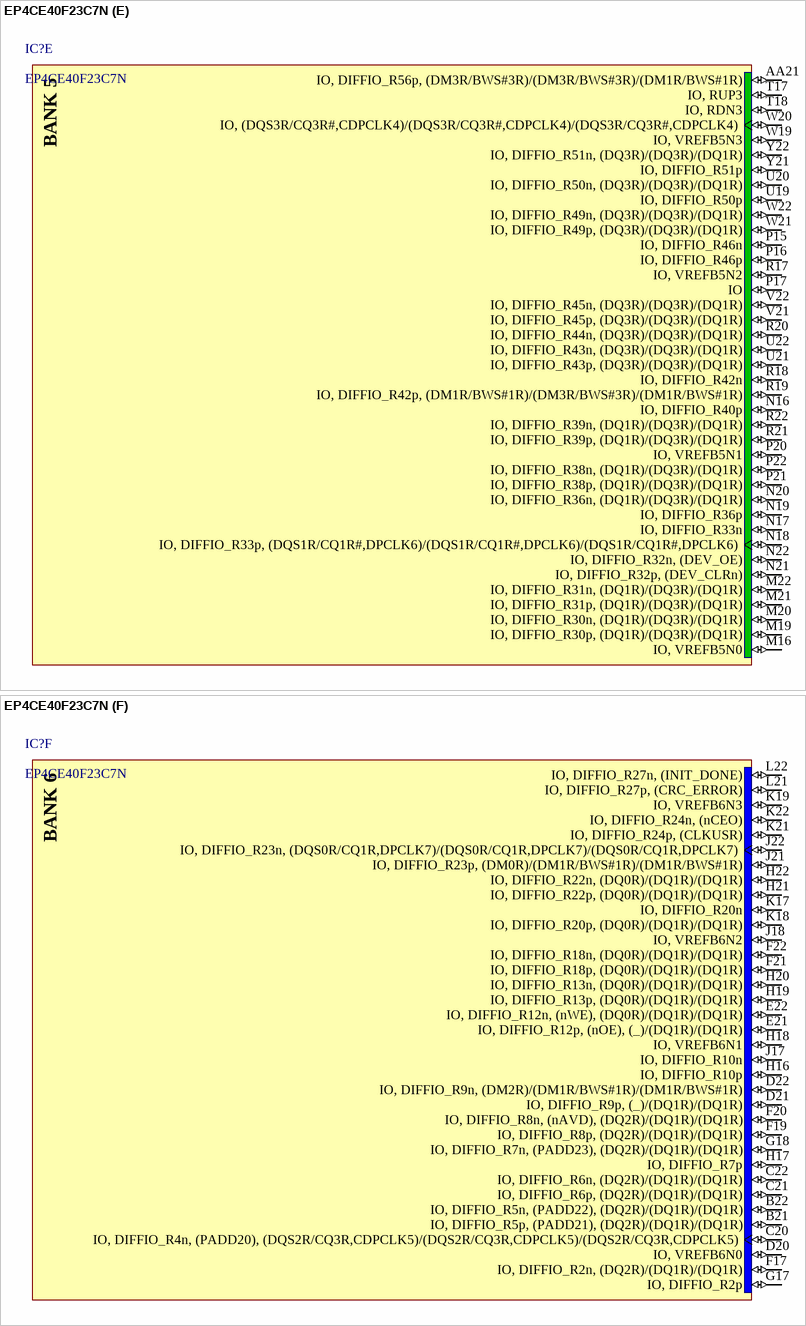
[diagram p21: symbol EP4CE40F23C7N]

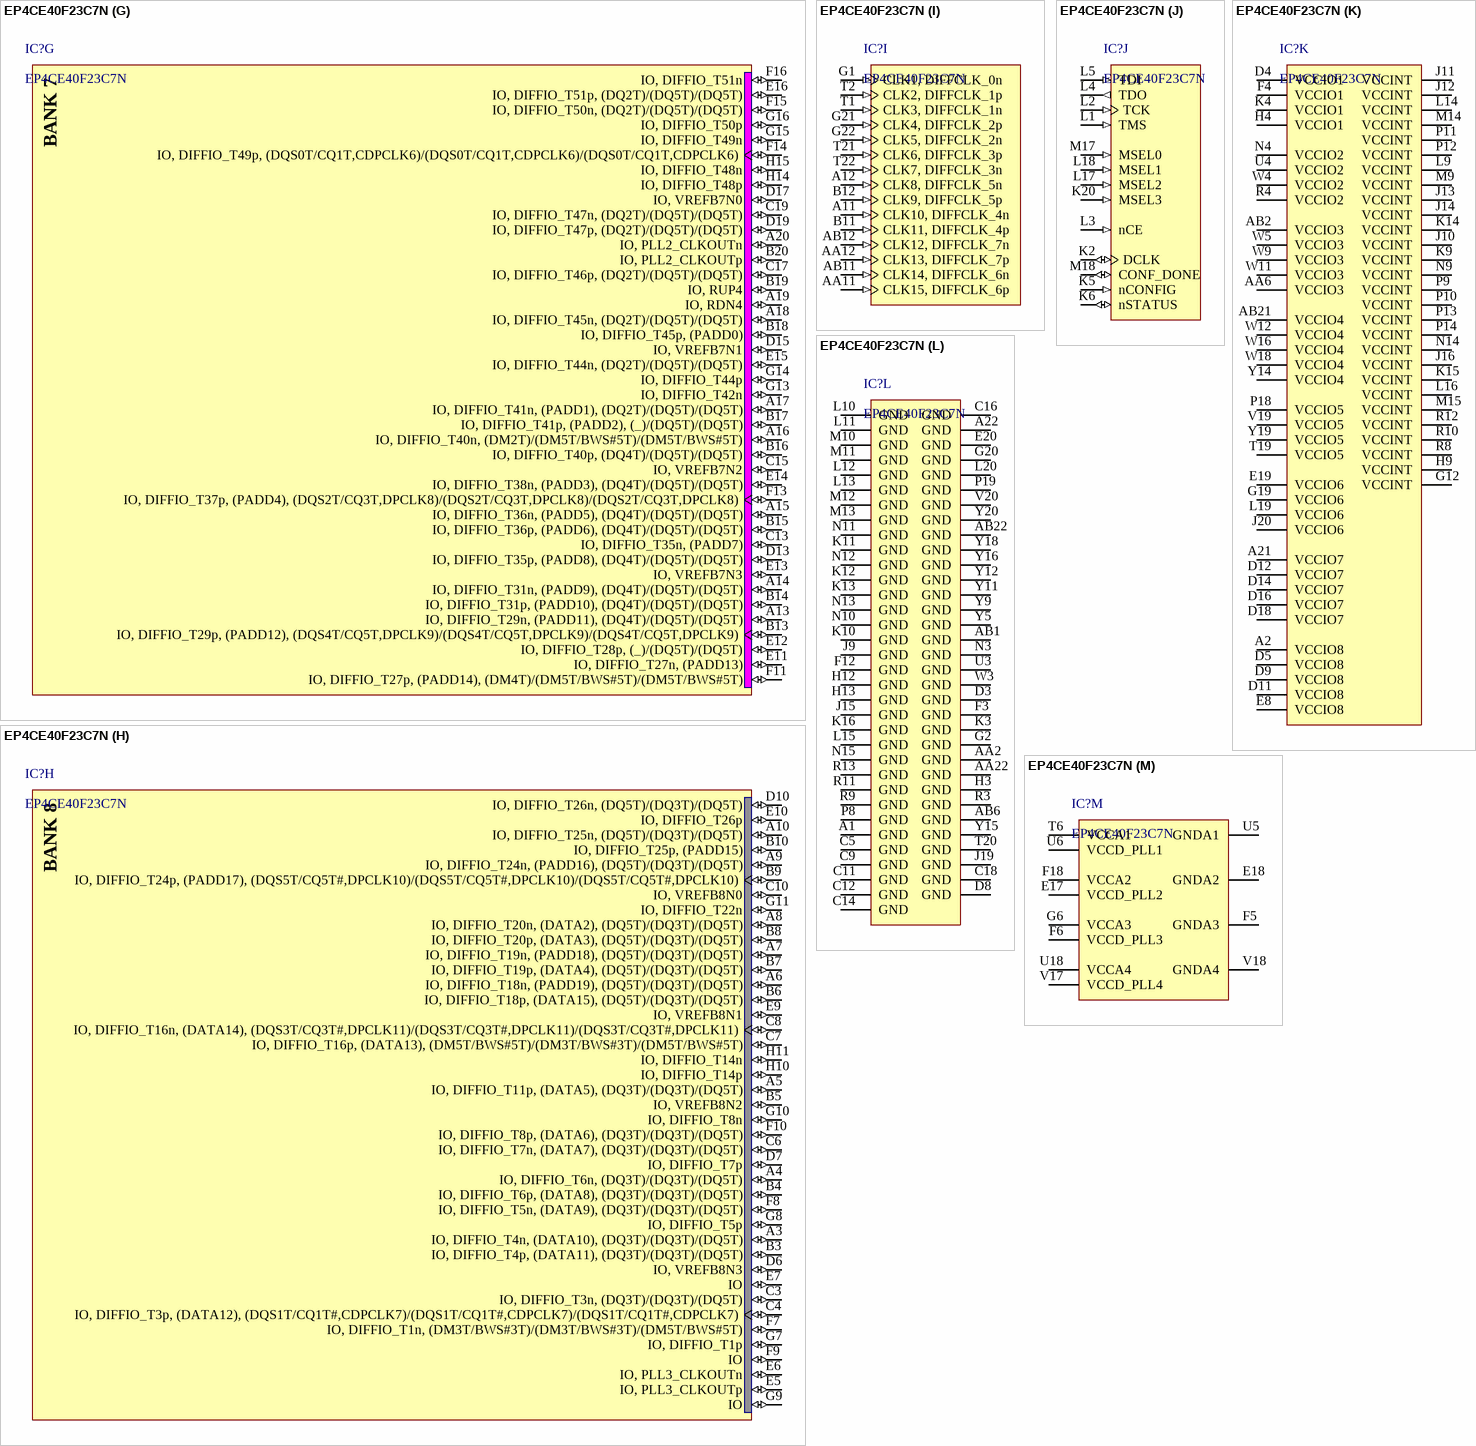
[diagram p22: symbol EP4CE40F23C7N]

## EP4CE40F23C7N
designator IC?
Cyclone IV Family FPGA, 1.2V Core, 328 I/O Pins, 4 PLLs, 484-Pin FBGA, Speed Grade 7, Commercial Grade, Pb-Free; Manufacturer: Altera; DatasheetVersion: ver1.6, Nov-2011; PackageVersion: ver1.0, Jun-2011; PackageReference: FBGA484_A-240; PackageDescription: 484-Pin FineLine Ball Grid Array (FBGA) - Wire Bond - A:2.40; Code_JEDEC: MS-034-AAJ-1; ComponentLink1Description: Manufacturer URL; ComponentLink1URL: http://www.altera.com/; ComponentLink2Description: Handbook; ComponentLink2URL: http://www.altera.com/literature/hb/cyclone-iv/cyclone4-handbook.pdf; ComponentLink3Description: Pinout; ComponentLink3URL: http://www.altera.com/literature/lit-dp.jsp?category=cyc%204&showspreadsheet=y; ComponentLink4Description: Package Specification; ComponentLink4URL: http://www.altera.com/devicepackaging/04R00247-02.pdf
footprint FBGA484_A-240 (BGA, 484-Leads, Body 23x23mm, Pitch 1mm)
part A pins: B1 IO, DIFFIO_L2n, (DQ2L)/(DQ1L)/(DQ1L) (io), B2 IO, DIFFIO_L2p, (DQ2L)/(DQ1L)/(DQ1L) (io), C1 IO, DIFFIO_L7n, (DQ2L)/(DQ1L)/(DQ1L) (io), C2 IO, DIFFIO_L7p, (DQS2L/CQ3L,CDPCLK0)/(DQS2L/CQ3L,CDPCLK0)/(DQS2L/CQ3L,CDPCLK0) (io), D1 IO, DIFFIO_L8n, (DATA1,ASDO) (io), D2 IO, DIFFIO_L8p, (DQ2L)/(DQ1L)/(DQ1L) (io), E1 IO, DIFFIO_L10n, (_)/(DQ1L)/(DQ1L) (io), E2 IO, DIFFIO_L10p, (FLASH_nCE,nCSO) (io), E3 IO, DIFFIO_L4n, (DQ2L)/(DQ1L)/(DQ1L) (io), E4 IO, DIFFIO_L4p, (nRESET), (DQ2L)/(DQ1L)/(DQ1L) (io), F1 IO, DIFFIO_L12n, (DQ0L)/(DQ1L)/(DQ1L) (io), F2 IO, DIFFIO_L12p, (DM2L)/(DM1L/BWS#1L)/(DM1L/BWS#1L) (io), G3 IO, DIFFIO_L1n (io), G4 IO, DIFFIO_L1p (io), G5 IO, VREFB1N0 (io), H1 IO, DIFFIO_L23n, (DQ0L)/(DQ1L)/(DQ1L) (io), H2 IO, DIFFIO_L23p, (DQ0L)/(DQ1L)/(DQ1L) (io), H5 IO, VREFB1N2 (io), H6 IO, DIFFIO_L9p, (DQ2L)/(DQ1L)/(DQ1L) (io), H7 IO, VREFB1N1 (io), H8 IO, DIFFIO_L14p (io), J1 IO, DIFFIO_L24n, (DQ0L)/(DQ1L)/(DQ1L) (io), J2 IO, DIFFIO_L24p, (DQ0L)/(DQ1L)/(DQ1L) (io), J3 IO, VREFB1N3 (io), J4 IO, (DQS0L/CQ1L,DPCLK0)/(DQS0L/CQ1L,DPCLK0)/(DQS0L/CQ1L,DPCLK0) (io), J5 IO, DIFFIO_L18n (io), J6 IO, DIFFIO_L9n, (DQ2L)/(DQ1L)/(DQ1L) (io), J7 IO, DIFFIO_L21p (io), J8 IO, DIFFIO_L14n (io), K1 IO, (DATA0) (io), K7 IO, DIFFIO_L21n (io), K8 IO, DIFFIO_L20n (io), L8 IO, DIFFIO_L20p (io)
part B pins: AA1 IO, DIFFIO_L50n, (DQ3L)/(DQ3L)/(DQ1L) (io), L6 IO, DIFFIO_L26p, (DQ0L)/(DQ1L)/(DQ1L) (io), L7 IO, DIFFIO_L30n (io), M1 IO, DIFFIO_L27n, (_)/(DQ1L)/(DQ1L) (io), M2 IO, DIFFIO_L27p, (DQ0L)/(DQ1L)/(DQ1L) (io), M3 IO, DIFFIO_L28n, (DQ1L)/(DQ3L)/(DQ1L) (io), M4 IO, DIFFIO_L28p, (DM0L)/(DM1L/BWS#1L)/(DM1L/BWS#1L) (io), M5 IO, VREFB2N0 (io), M6 IO, DIFFIO_L26n, (DQ0L)/(DQ1L)/(DQ1L) (io), M7 IO, DIFFIO_L41n (io), M8 IO, DIFFIO_L42p (io), N1 IO, DIFFIO_L29n, (DQ1L)/(DQ3L)/(DQ1L) (io), N2 IO, DIFFIO_L29p, (DQ1L)/(DQ3L)/(DQ1L) (io), N5 IO, (DQ1L)/(DQ3L)/(DQ1L) (io), N6 IO, DIFFIO_L41p, (DQ3L)/(DQ3L)/(DQ1L) (io), N7 IO, DIFFIO_L49p (io), N8 IO, DIFFIO_L42n (io), P1 IO, DIFFIO_L32n, (DQ1L)/(DQ3L)/(DQ1L) (io), P2 IO, DIFFIO_L32p, (DQ1L)/(DQ3L)/(DQ1L) (io), P3 IO, DIFFIO_L34n, (DQ1L)/(DQ3L)/(DQ1L) (io), P4 IO, DIFFIO_L34p, (DQS1L/CQ1L#,DPCLK1)/(DQS1L/CQ1L#,DPCLK1)/(DQS1L/CQ1L#,DPCLK1) (io), P5 IO, VREFB2N1 (io), P6 IO, DIFFIO_L52p (io), P7 IO, DIFFIO_L49n (io), R1 IO, DIFFIO_L33n, (DQ1L)/(DQ3L)/(DQ1L) (io), R2 IO, DIFFIO_L33p, (DQ1L)/(DQ3L)/(DQ1L) (io), R5 IO, VREFB2N3 (io), R6 IO (io), R7 IO, DIFFIO_L53p (io), T3 IO, VREFB2N2 (io), T4 IO, (DQS3L/CQ3L#,CDPCLK1)/(DQS3L/CQ3L#,CDPCLK1)/(DQS3L/CQ3L#,CDPCLK1) (io), T5 IO, (DM3L/BWS#3L)/(DM3L/BWS#3L)/(DM1L/BWS#1L) (io), T7 IO, DIFFIO_L53n (io), U1 IO, DIFFIO_L35n, (DQ3L)/(DQ3L)/(DQ1L) (io), U2 IO, DIFFIO_L35p, (DM1L/BWS#1L)/(DM3L/BWS#3L)/(DM1L/BWS#1L) (io), V1 IO, DIFFIO_L38n, (DQ3L)/(DQ3L)/(DQ1L) (io), V2 IO, DIFFIO_L38p, (DQ3L)/(DQ3L)/(DQ1L) (io), V3 IO, RDN1 (io), V4 IO, RUP1 (io), W1 IO, DIFFIO_L44n, (DQ3L)/(DQ3L)/(DQ1L) (io), W2 IO, DIFFIO_L44p, (DQ3L)/(DQ3L)/(DQ1L) (io), Y1 IO, DIFFIO_L45n, (DQ3L)/(DQ3L)/(DQ1L) (io), Y2 IO, DIFFIO_L45p, (DQ3L)/(DQ3L)/(DQ1L) (io)
part C pins: AA3 IO, PLL1_CLKOUTp (io), AA4 IO, (DQ3B)/(DQ3B)/(DQ5B) (io), AA5 IO, DIFFIO_B8p, (DQ3B)/(DQ3B)/(DQ5B) (io), AA7 IO, DIFFIO_B14p, (DM5B/BWS#5B)/(DM3B/BWS#3B)/(DM5B/BWS#5B) (io), AA8 IO, DIFFIO_B18p, (DQ5B)/(DQ3B)/(DQ5B) (io), AA9 IO, DIFFIO_B21p, (DQ5B)/(DQ3B)/(DQ5B) (io), AA10 IO, DIFFIO_B27p, (DM4B)/(DM5B/BWS#5B)/(DM5B/BWS#5B) (io), AB3 IO, PLL1_CLKOUTn (io), AB4 IO, VREFB3N2 (io), AB5 IO, DIFFIO_B8n (io), AB7 IO, DIFFIO_B14n, (DQ5B)/(DQ3B)/(DQ5B) (io), AB8 IO, DIFFIO_B18n, (DQ5B)/(DQ3B)/(DQ5B) (io), AB9 IO, DIFFIO_B21n, (DQS5B/CQ5B#,DPCLK3)/(DQS5B/CQ5B#,DPCLK3)/(DQS5B/CQ5B#,DPCLK3) (io), AB10 IO, DIFFIO_B27n, (_)/(DQ5B)/(DQ5B) (io), T8 IO, DIFFIO_B11p (io), T9 IO, DIFFIO_B11n (io), T10 IO, DIFFIO_B15p (io), T11 IO, DIFFIO_B15n (io), U7 IO, DIFFIO_B3p (io), U8 IO, DIFFIO_B3n (io), U9 IO, DIFFIO_B13p, (DQ3B)/(DQ3B)/(DQ5B) (io), U10 IO, DIFFIO_B17n, (DQ5B)/(DQ3B)/(DQ5B) (io), U11 IO, VREFB3N0 (io), V5 IO, DIFFIO_B1n, (DM3B/BWS#3B)/(DM3B/BWS#3B)/(DM5B/BWS#5B) (io), V6 IO, DIFFIO_B1p (io), V7 IO, DIFFIO_B7n (io), V8 IO, DIFFIO_B13n, (DQ3B)/(DQ3B)/(DQ5B) (io), V9 IO, VREFB3N1 (io), V10 IO, DIFFIO_B16p, (DQS3B/CQ3B#,DPCLK2)/(DQS3B/CQ3B#,DPCLK2)/(DQS3B/CQ3B#,DPCLK2) (io), V11 IO, DIFFIO_B25n, (DQ5B)/(DQ3B)/(DQ5B) (io), W6 IO, DIFFIO_B7p, (DQ3B)/(DQ3B)/(DQ5B) (io), W7 IO, DIFFIO_B12p, (DQ3B)/(DQ3B)/(DQ5B) (io), W8 IO, (DQ3B)/(DQ3B)/(DQ5B) (io), W10 IO, DIFFIO_B26p, (DQ5B)/(DQ3B)/(DQ5B) (io), Y3 IO, DIFFIO_B4p, (DQ3B)/(DQ3B)/(DQ5B) (io), Y4 IO, VREFB3N3 (io), Y6 IO, DIFFIO_B6p, (DQS1B/CQ1B#,CDPCLK2)/(DQS1B/CQ1B#,CDPCLK2)/(DQS1B/CQ1B#,CDPCLK2) (io), Y7 IO, DIFFIO_B12n, (DQ3B)/(DQ3B)/(DQ5B) (io), Y8 IO, (DQ5B)/(DQ3B)/(DQ5B) (io), Y10 IO, DIFFIO_B26n, (DQ5B)/(DQ3B)/(DQ5B) (io)
part D pins: AA13 IO, DIFFIO_B28p, (DQ4B)/(DQ5B)/(DQ5B) (io), AA14 IO, DIFFIO_B29p, (DQ4B)/(DQ5B)/(DQ5B) (io), AA15 IO, DIFFIO_B33p, (DQ4B)/(DQ5B)/(DQ5B) (io), AA16 IO, DIFFIO_B35p, (DM2B)/(DM5B/BWS#5B)/(DM5B/BWS#5B) (io), AA17 IO, DIFFIO_B43p (io), AA18 IO, VREFB4N1 (io), AA19 IO, RUP2 (io), AA20 IO, DIFFIO_B49p, (_)/(DQ5B)/(DQ5B) (io), AB13 IO, DIFFIO_B28n, (DQ4B)/(DQ5B)/(DQ5B) (io), AB14 IO, DIFFIO_B29n, (DQ4B)/(DQ5B)/(DQ5B) (io), AB15 IO, DIFFIO_B33n, (DQ4B)/(DQ5B)/(DQ5B) (io), AB16 IO, DIFFIO_B35n, (DQ2B)/(DQ5B)/(DQ5B) (io), AB17 IO, DIFFIO_B43n (io), AB18 IO, (DQ2B)/(DQ5B)/(DQ5B) (io), AB19 IO, RDN2 (io), AB20 IO, DIFFIO_B49n, (DQ2B)/(DQ5B)/(DQ5B) (io), R14 IO, DIFFIO_B52p (io), R15 IO, DIFFIO_B52n (io), R16 IO, PLL4_CLKOUTn (io), T12 IO, DIFFIO_B36p (io), T13 IO, DIFFIO_B36n (io), T14 IO, DIFFIO_B42p (io), T15 IO, DIFFIO_B42n, (DQ2B)/(DQ5B)/(DQ5B) (io), T16 IO, PLL4_CLKOUTp (io), U12 IO, DIFFIO_B34p, (DQ4B)/(DQ5B)/(DQ5B) (io), U13 IO, DIFFIO_B38n (io), U14 IO, DIFFIO_B39n (io), U15 IO, DIFFIO_B40p (io), U16 IO, DIFFIO_B50p (io), U17 IO, DIFFIO_B50n (io), V12 IO, VREFB4N3 (io), V13 IO, (DQS2B/CQ3B,DPCLK5)/(DQS2B/CQ3B,DPCLK5)/(DQS2B/CQ3B,DPCLK5) (io), V14 IO, DIFFIO_B39p, (DQ2B)/(DQ5B)/(DQ5B) (io), V15 IO, DIFFIO_B40n, (DQ2B)/(DQ5B)/(DQ5B) (io), V16 IO, VREFB4N0 (io), W13 IO, DIFFIO_B32p, (DQ4B)/(DQ5B)/(DQ5B) (io), W14 IO, VREFB4N2 (io), W15 IO, DIFFIO_B41n, (DQ2B)/(DQ5B)/(DQ5B) (io), W17 IO, DIFFIO_B48p, (DQ2B)/(DQ5B)/(DQ5B) (io), Y13 IO, DIFFIO_B32n, (DQS4B/CQ5B,DPCLK4)/(DQS4B/CQ5B,DPCLK4)/(DQS4B/CQ5B,DPCLK4) (io), Y17 IO, DIFFIO_B48n, (DQS0B/CQ1B,CDPCLK3)/(DQS0B/CQ1B,CDPCLK3)/(DQS0B/CQ1B,CDPCLK3) (io)
part E pins: AA21 IO, DIFFIO_R56p, (DM3R/BWS#3R)/(DM3R/BWS#3R)/(DM1R/BWS#1R) (io), M16 IO, VREFB5N0 (io), M19 IO, DIFFIO_R30p, (DQ1R)/(DQ3R)/(DQ1R) (io), M20 IO, DIFFIO_R30n, (DQ1R)/(DQ3R)/(DQ1R) (io), M21 IO, DIFFIO_R31p, (DQ1R)/(DQ3R)/(DQ1R) (io), M22 IO, DIFFIO_R31n, (DQ1R)/(DQ3R)/(DQ1R) (io), N16 IO, DIFFIO_R40p (io), N17 IO, DIFFIO_R33n (io), N18 IO, DIFFIO_R33p, (DQS1R/CQ1R#,DPCLK6)/(DQS1R/CQ1R#,DPCLK6)/(DQS1R/CQ1R#,DPCLK6) (io), N19 IO, DIFFIO_R36p (io), N20 IO, DIFFIO_R36n, (DQ1R)/(DQ3R)/(DQ1R) (io), N21 IO, DIFFIO_R32p, (DEV_CLRn) (io), N22 IO, DIFFIO_R32n, (DEV_OE) (io), P15 IO, DIFFIO_R46n (io), P16 IO, DIFFIO_R46p (io), P17 IO (io), P20 IO, VREFB5N1 (io), P21 IO, DIFFIO_R38p, (DQ1R)/(DQ3R)/(DQ1R) (io), P22 IO, DIFFIO_R38n, (DQ1R)/(DQ3R)/(DQ1R) (io), R17 IO, VREFB5N2 (io), R18 IO, DIFFIO_R42n (io), R19 IO, DIFFIO_R42p, (DM1R/BWS#1R)/(DM3R/BWS#3R)/(DM1R/BWS#1R) (io), R20 IO, DIFFIO_R44n, (DQ3R)/(DQ3R)/(DQ1R) (io), R21 IO, DIFFIO_R39p, (DQ1R)/(DQ3R)/(DQ1R) (io), R22 IO, DIFFIO_R39n, (DQ1R)/(DQ3R)/(DQ1R) (io), T17 IO, RUP3 (io), T18 IO, RDN3 (io), U19 IO, DIFFIO_R50p (io), U20 IO, DIFFIO_R50n, (DQ3R)/(DQ3R)/(DQ1R) (io), U21 IO, DIFFIO_R43p, (DQ3R)/(DQ3R)/(DQ1R) (io), U22 IO, DIFFIO_R43n, (DQ3R)/(DQ3R)/(DQ1R) (io), V21 IO, DIFFIO_R45p, (DQ3R)/(DQ3R)/(DQ1R) (io), V22 IO, DIFFIO_R45n, (DQ3R)/(DQ3R)/(DQ1R) (io), W19 IO, VREFB5N3 (io), W20 IO, (DQS3R/CQ3R#,CDPCLK4)/(DQS3R/CQ3R#,CDPCLK4)/(DQS3R/CQ3R#,CDPCLK4) (io), W21 IO, DIFFIO_R49p, (DQ3R)/(DQ3R)/(DQ1R) (io), W22 IO, DIFFIO_R49n, (DQ3R)/(DQ3R)/(DQ1R) (io), Y21 IO, DIFFIO_R51p (io), Y22 IO, DIFFIO_R51n, (DQ3R)/(DQ3R)/(DQ1R) (io)
part F pins: B21 IO, DIFFIO_R5p, (PADD21), (DQ2R)/(DQ1R)/(DQ1R) (io), B22 IO, DIFFIO_R5n, (PADD22), (DQ2R)/(DQ1R)/(DQ1R) (io), C20 IO, DIFFIO_R4n, (PADD20), (DQS2R/CQ3R,CDPCLK5)/(DQS2R/CQ3R,CDPCLK5)/(DQS2R/CQ3R,CDPCLK5) (io), C21 IO, DIFFIO_R6p, (DQ2R)/(DQ1R)/(DQ1R) (io), C22 IO, DIFFIO_R6n, (DQ2R)/(DQ1R)/(DQ1R) (io), D20 IO, VREFB6N0 (io), D21 IO, DIFFIO_R9p, (_)/(DQ1R)/(DQ1R) (io), D22 IO, DIFFIO_R9n, (DM2R)/(DM1R/BWS#1R)/(DM1R/BWS#1R) (io), E21 IO, DIFFIO_R12p, (nOE), (_)/(DQ1R)/(DQ1R) (io), E22 IO, DIFFIO_R12n, (nWE), (DQ0R)/(DQ1R)/(DQ1R) (io), F17 IO, DIFFIO_R2n, (DQ2R)/(DQ1R)/(DQ1R) (io), F19 IO, DIFFIO_R8p, (DQ2R)/(DQ1R)/(DQ1R) (io), F20 IO, DIFFIO_R8n, (nAVD), (DQ2R)/(DQ1R)/(DQ1R) (io), F21 IO, DIFFIO_R18p, (DQ0R)/(DQ1R)/(DQ1R) (io), F22 IO, DIFFIO_R18n, (DQ0R)/(DQ1R)/(DQ1R) (io), G17 IO, DIFFIO_R2p (io), G18 IO, DIFFIO_R7n, (PADD23), (DQ2R)/(DQ1R)/(DQ1R) (io), H16 IO, DIFFIO_R10p (io), H17 IO, DIFFIO_R7p (io), H18 IO, VREFB6N1 (io), H19 IO, DIFFIO_R13p, (DQ0R)/(DQ1R)/(DQ1R) (io), H20 IO, DIFFIO_R13n, (DQ0R)/(DQ1R)/(DQ1R) (io), H21 IO, DIFFIO_R22p, (DQ0R)/(DQ1R)/(DQ1R) (io), H22 IO, DIFFIO_R22n, (DQ0R)/(DQ1R)/(DQ1R) (io), J17 IO, DIFFIO_R10n (io), J18 IO, VREFB6N2 (io), J21 IO, DIFFIO_R23p, (DM0R)/(DM1R/BWS#1R)/(DM1R/BWS#1R) (io), J22 IO, DIFFIO_R23n, (DQS0R/CQ1R,DPCLK7)/(DQS0R/CQ1R,DPCLK7)/(DQS0R/CQ1R,DPCLK7) (io), K17 IO, DIFFIO_R20n (io), K18 IO, DIFFIO_R20p, (DQ0R)/(DQ1R)/(DQ1R) (io), K19 IO, VREFB6N3 (io), K21 IO, DIFFIO_R24p, (CLKUSR) (io), K22 IO, DIFFIO_R24n, (nCEO) (io), L21 IO, DIFFIO_R27p, (CRC_ERROR) (io), L22 IO, DIFFIO_R27n, (INIT_DONE) (io)
part G pins: A13 IO, DIFFIO_T29n, (PADD11), (DQ4T)/(DQ5T)/(DQ5T) (io), A14 IO, DIFFIO_T31n, (PADD9), (DQ4T)/(DQ5T)/(DQ5T) (io), A15 IO, DIFFIO_T36n, (PADD5), (DQ4T)/(DQ5T)/(DQ5T) (io), A16 IO, DIFFIO_T40n, (DM2T)/(DM5T/BWS#5T)/(DM5T/BWS#5T) (io), A17 IO, DIFFIO_T41n, (PADD1), (DQ2T)/(DQ5T)/(DQ5T) (io), A18 IO, DIFFIO_T45n, (DQ2T)/(DQ5T)/(DQ5T) (io), A19 IO, RDN4 (io), A20 IO, PLL2_CLKOUTn (io), B13 IO, DIFFIO_T29p, (PADD12), (DQS4T/CQ5T,DPCLK9)/(DQS4T/CQ5T,DPCLK9)/(DQS4T/CQ5T,DPCLK9) (io), B14 IO, DIFFIO_T31p, (PADD10), (DQ4T)/(DQ5T)/(DQ5T) (io), B15 IO, DIFFIO_T36p, (PADD6), (DQ4T)/(DQ5T)/(DQ5T) (io), B16 IO, DIFFIO_T40p, (DQ4T)/(DQ5T)/(DQ5T) (io), B17 IO, DIFFIO_T41p, (PADD2), (_)/(DQ5T)/(DQ5T) (io), B18 IO, DIFFIO_T45p, (PADD0) (io), B19 IO, RUP4 (io), B20 IO, PLL2_CLKOUTp (io), C13 IO, DIFFIO_T35n, (PADD7) (io), C15 IO, VREFB7N2 (io), C17 IO, DIFFIO_T46p, (DQ2T)/(DQ5T)/(DQ5T) (io), C19 IO, DIFFIO_T47n, (DQ2T)/(DQ5T)/(DQ5T) (io), D13 IO, DIFFIO_T35p, (PADD8), (DQ4T)/(DQ5T)/(DQ5T) (io), D15 IO, VREFB7N1 (io), D17 IO, VREFB7N0 (io), D19 IO, DIFFIO_T47p, (DQ2T)/(DQ5T)/(DQ5T) (io), E11 IO, DIFFIO_T27n, (PADD13) (io), E12 IO, DIFFIO_T28p, (_)/(DQ5T)/(DQ5T) (io), E13 IO, VREFB7N3 (io), E14 IO, DIFFIO_T38n, (PADD3), (DQ4T)/(DQ5T)/(DQ5T) (io), E15 IO, DIFFIO_T44n, (DQ2T)/(DQ5T)/(DQ5T) (io), E16 IO, DIFFIO_T51p, (DQ2T)/(DQ5T)/(DQ5T) (io), F11 IO, DIFFIO_T27p, (PADD14), (DM4T)/(DM5T/BWS#5T)/(DM5T/BWS#5T) (io), F13 IO, DIFFIO_T37p, (PADD4), (DQS2T/CQ3T,DPCLK8)/(DQS2T/CQ3T,DPCLK8)/(DQS2T/CQ3T,DPCLK8) (io), F14 IO, DIFFIO_T49p, (DQS0T/CQ1T,CDPCLK6)/(DQS0T/CQ1T,CDPCLK6)/(DQS0T/CQ1T,CDPCLK6) (io), F15 IO, DIFFIO_T50n, (DQ2T)/(DQ5T)/(DQ5T) (io), F16 IO, DIFFIO_T51n (io), G13 IO, DIFFIO_T42n (io), G14 IO, DIFFIO_T44p (io), G15 IO, DIFFIO_T49n (io), G16 IO, DIFFIO_T50p (io), H14 IO, DIFFIO_T48p (io), H15 IO, DIFFIO_T48n (io)
part H pins: A3 IO, DIFFIO_T4n, (DATA10), (DQ3T)/(DQ3T)/(DQ5T) (io), A4 IO, DIFFIO_T6n, (DQ3T)/(DQ3T)/(DQ5T) (io), A5 IO, DIFFIO_T11p, (DATA5), (DQ3T)/(DQ3T)/(DQ5T) (io), A6 IO, DIFFIO_T18n, (PADD19), (DQ5T)/(DQ3T)/(DQ5T) (io), A7 IO, DIFFIO_T19n, (PADD18), (DQ5T)/(DQ3T)/(DQ5T) (io), A8 IO, DIFFIO_T20n, (DATA2), (DQ5T)/(DQ3T)/(DQ5T) (io), A9 IO, DIFFIO_T24n, (PADD16), (DQ5T)/(DQ3T)/(DQ5T) (io), A10 IO, DIFFIO_T25n, (DQ5T)/(DQ3T)/(DQ5T) (io), B3 IO, DIFFIO_T4p, (DATA11), (DQ3T)/(DQ3T)/(DQ5T) (io), B4 IO, DIFFIO_T6p, (DATA8), (DQ3T)/(DQ3T)/(DQ5T) (io), B5 IO, VREFB8N2 (io), B6 IO, DIFFIO_T18p, (DATA15), (DQ5T)/(DQ3T)/(DQ5T) (io), B7 IO, DIFFIO_T19p, (DATA4), (DQ5T)/(DQ3T)/(DQ5T) (io), B8 IO, DIFFIO_T20p, (DATA3), (DQ5T)/(DQ3T)/(DQ5T) (io), B9 IO, DIFFIO_T24p, (PADD17), (DQS5T/CQ5T#,DPCLK10)/(DQS5T/CQ5T#,DPCLK10)/(DQS5T/CQ5T#,DPCLK10) (io), B10 IO, DIFFIO_T25p, (PADD15) (io), C3 IO, DIFFIO_T3n, (DQ3T)/(DQ3T)/(DQ5T) (io), C4 IO, DIFFIO_T3p, (DATA12), (DQS1T/CQ1T#,CDPCLK7)/(DQS1T/CQ1T#,CDPCLK7)/(DQS1T/CQ1T#,CDPCLK7) (io), C6 IO, DIFFIO_T7n, (DATA7), (DQ3T)/(DQ3T)/(DQ5T) (io), C7 IO, DIFFIO_T16p, (DATA13), (DM5T/BWS#5T)/(DM3T/BWS#3T)/(DM5T/BWS#5T) (io), C8 IO, DIFFIO_T16n, (DATA14), (DQS3T/CQ3T#,DPCLK11)/(DQS3T/CQ3T#,DPCLK11)/(DQS3T/CQ3T#,DPCLK11) (io), C10 IO, VREFB8N0 (io), D6 IO, VREFB8N3 (io), D7 IO, DIFFIO_T7p (io), D10 IO, DIFFIO_T26n, (DQ5T)/(DQ3T)/(DQ5T) (io), E5 IO, PLL3_CLKOUTp (io), E6 IO, PLL3_CLKOUTn (io), E7 IO (io), E9 IO, VREFB8N1 (io), E10 IO, DIFFIO_T26p (io), F7 IO, DIFFIO_T1n, (DM3T/BWS#3T)/(DM3T/BWS#3T)/(DM5T/BWS#5T) (io), F8 IO, DIFFIO_T5n, (DATA9), (DQ3T)/(DQ3T)/(DQ5T) (io), F9 IO (io), F10 IO, DIFFIO_T8p, (DATA6), (DQ3T)/(DQ3T)/(DQ5T) (io), G7 IO, DIFFIO_T1p (io), G8 IO, DIFFIO_T5p (io), G9 IO (io), G10 IO, DIFFIO_T8n (io), G11 IO, DIFFIO_T22n (io), H10 IO, DIFFIO_T14p (io), H11 IO, DIFFIO_T14n (io)
part I pins: A11 CLK10, DIFFCLK_4n (in), A12 CLK8, DIFFCLK_5n (in), AA11 CLK15, DIFFCLK_6p (in), AA12 CLK13, DIFFCLK_7p (in), AB11 CLK14, DIFFCLK_6n (in), AB12 CLK12, DIFFCLK_7n (in), B11 CLK11, DIFFCLK_4p (in), B12 CLK9, DIFFCLK_5p (in), G1 CLK1, DIFFCLK_0n (in), G21 CLK4, DIFFCLK_2p (in), G22 CLK5, DIFFCLK_2n (in), T1 CLK3, DIFFCLK_1n (in), T2 CLK2, DIFFCLK_1p (in), T21 CLK6, DIFFCLK_3p (in), T22 CLK7, DIFFCLK_3n (in)
part J pins: K2 DCLK (io), K5 nCONFIG (in), K6 nSTATUS (io), K20 MSEL3 (in), L1 TMS (in), L2 TCK (in), L3 nCE (in), L4 TDO (out), L5 TDI (in), L17 MSEL2 (in), L18 MSEL1 (in), M17 MSEL0 (in), M18 CONF_DONE (io)
part K pins: A2 VCCIO8 (power), A21 VCCIO7 (power), AA6 VCCIO3 (power), AB2 VCCIO3 (power), AB21 VCCIO4 (power), D4 VCCIO1 (power), D5 VCCIO8 (power), D9 VCCIO8 (power), D11 VCCIO8 (power), D12 VCCIO7 (power), D14 VCCIO7 (power), D16 VCCIO7 (power), D18 VCCIO7 (power), E8 VCCIO8 (power), E19 VCCIO6 (power), F4 VCCIO1 (power), G12 VCCINT (power), G19 VCCIO6 (power), H4 VCCIO1 (power), H9 VCCINT (power), J10 VCCINT (power), J11 VCCINT (power), J12 VCCINT (power), J13 VCCINT (power), J14 VCCINT (power), J16 VCCINT (power), J20 VCCIO6 (power), K4 VCCIO1 (power), K9 VCCINT (power), K14 VCCINT (power), K15 VCCINT (power), L9 VCCINT (power), L14 VCCINT (power), L16 VCCINT (power), L19 VCCIO6 (power), M9 VCCINT (power), M14 VCCINT (power), M15 VCCINT (power), N4 VCCIO2 (power), N9 VCCINT (power), N14 VCCINT (power), P9 VCCINT (power), P10 VCCINT (power), P11 VCCINT (power), P12 VCCINT (power), P13 VCCINT (power), P14 VCCINT (power), P18 VCCIO5 (power), R4 VCCIO2 (power), R8 VCCINT (power), R10 VCCINT (power), R12 VCCINT (power), T19 VCCIO5 (power), U4 VCCIO2 (power), V19 VCCIO5 (power), W4 VCCIO2 (power), W5 VCCIO3 (power), W9 VCCIO3 (power), W11 VCCIO3 (power), W12 VCCIO4 (power), W16 VCCIO4 (power), W18 VCCIO4 (power), Y14 VCCIO4 (power), Y19 VCCIO5 (power)
part L pins: A1 GND (power), A22 GND (power), AA2 GND (power), AA22 GND (power), AB1 GND (power), AB6 GND (power), AB22 GND (power), C5 GND (power), C9 GND (power), C11 GND (power), C12 GND (power), C14 GND (power), C16 GND (power), C18 GND (power), D3 GND (power), D8 GND (power), E20 GND (power), F3 GND (power), F12 GND (power), G2 GND (power), G20 GND (power), H3 GND (power), H12 GND (power), H13 GND (power), J9 GND (power), J15 GND (power), J19 GND (power), K3 GND (power), K10 GND (power), K11 GND (power), K12 GND (power), K13 GND (power), K16 GND (power), L10 GND (power), L11 GND (power), L12 GND (power), L13 GND (power), L15 GND (power), L20 GND (power), M10 GND (power), M11 GND (power), M12 GND (power), M13 GND (power), N3 GND (power), N10 GND (power), N11 GND (power), N12 GND (power), N13 GND (power), N15 GND (power), P8 GND (power), P19 GND (power), R3 GND (power), R9 GND (power), R11 GND (power), R13 GND (power), T20 GND (power), U3 GND (power), V20 GND (power), W3 GND (power), Y5 GND (power), Y9 GND (power), Y11 GND (power), Y12 GND (power), Y15 GND (power), Y16 GND (power), Y18 GND (power), Y20 GND (power)
part M pins: E17 VCCD_PLL2 (power), E18 GNDA2 (power), F5 GNDA3 (power), F6 VCCD_PLL3 (power), F18 VCCA2 (power), G6 VCCA3 (power), T6 VCCA1 (power), U5 GNDA1 (power), U6 VCCD_PLL1 (power), U18 VCCA4 (power), V17 VCCD_PLL4 (power), V18 GNDA4 (power)
part A text: BANK 1
part B text: BANK 2
part C text: BANK 3
part D text: BANK 4
part E text: BANK 5
part F text: BANK 6
part G text: BANK 7
part H text: BANK 8

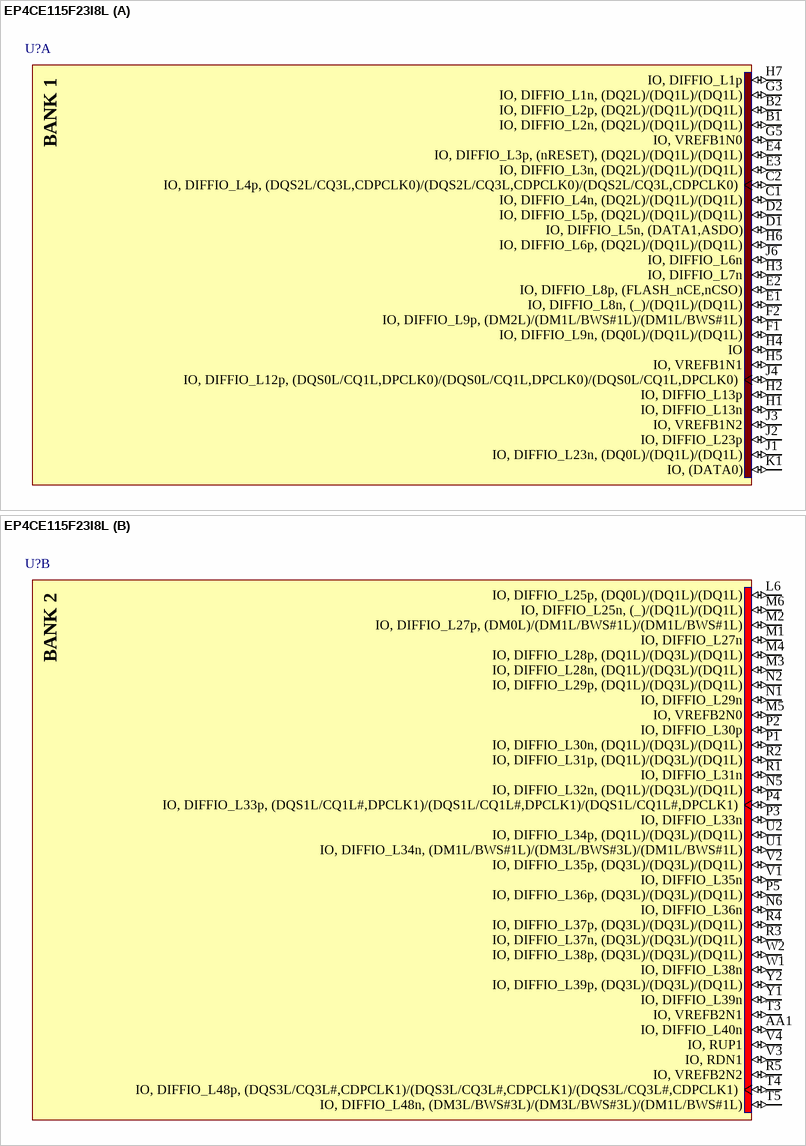
[diagram p23: symbol EP4CE115F23I8L]

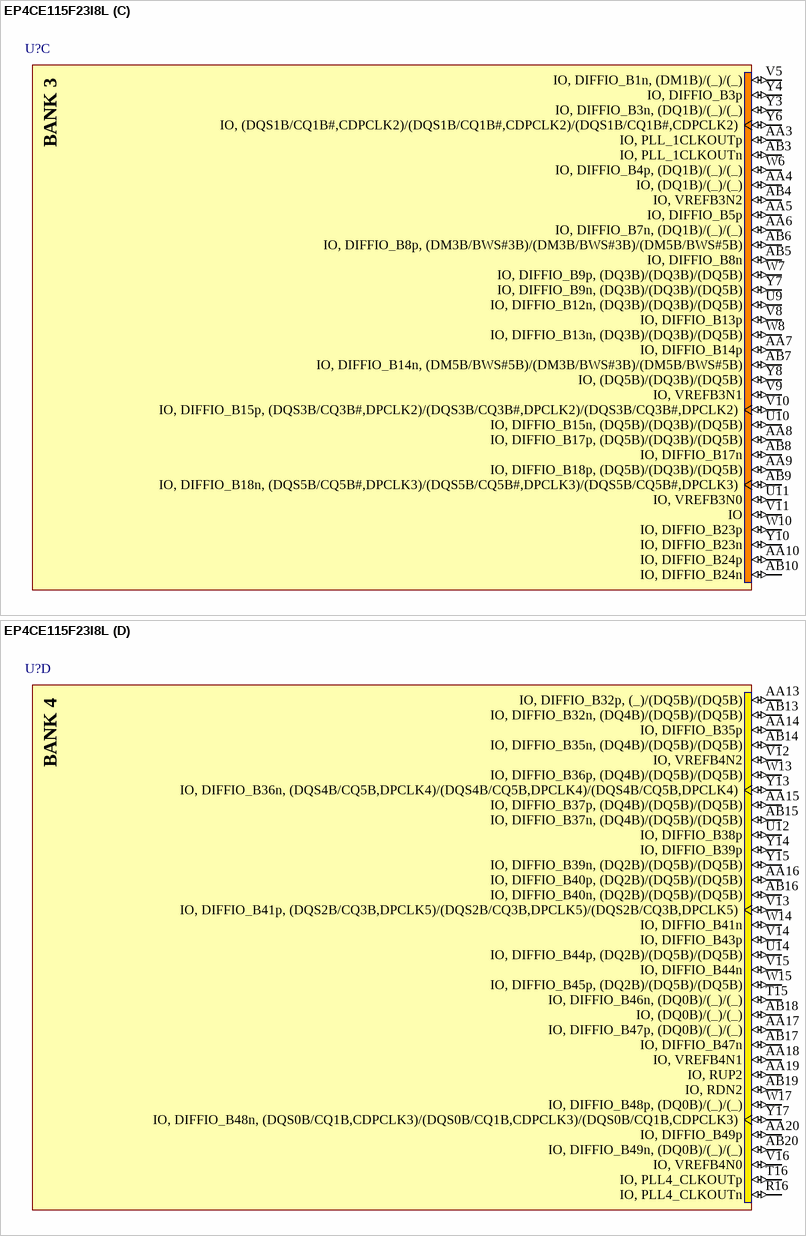
[diagram p24: symbol EP4CE115F23I8L]

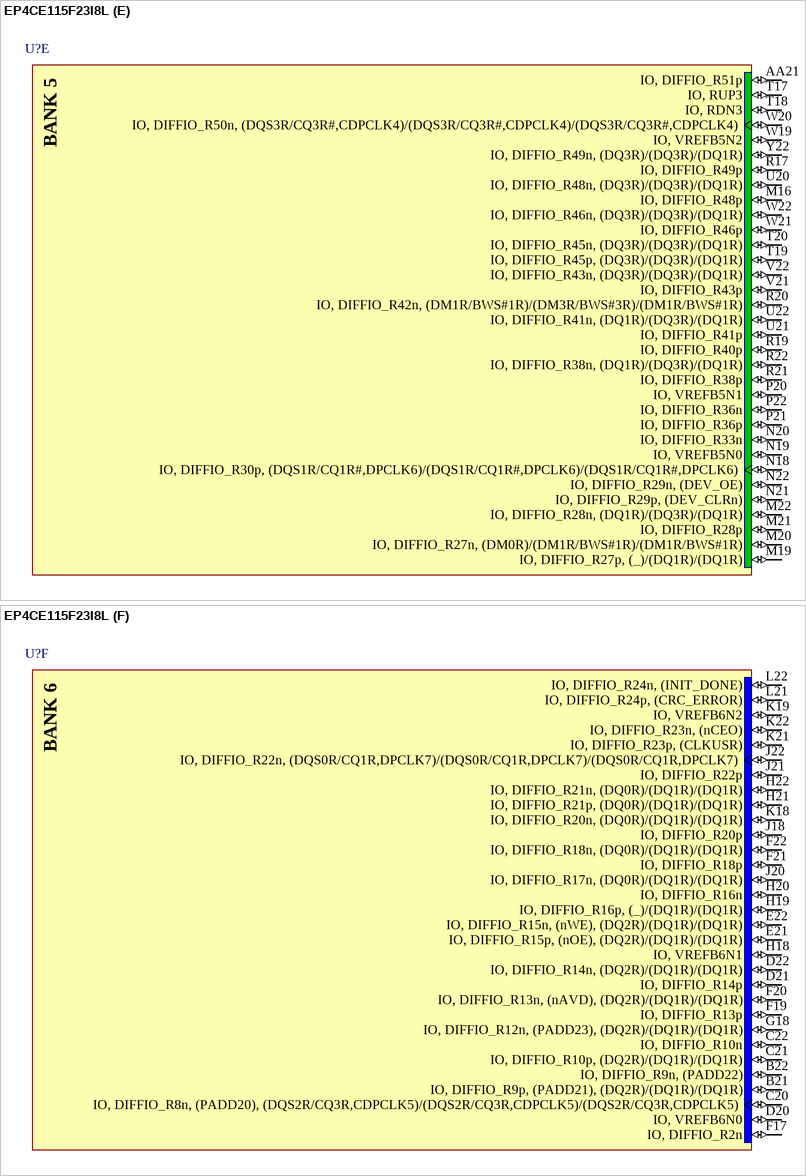
[diagram p25: symbol EP4CE115F23I8L]

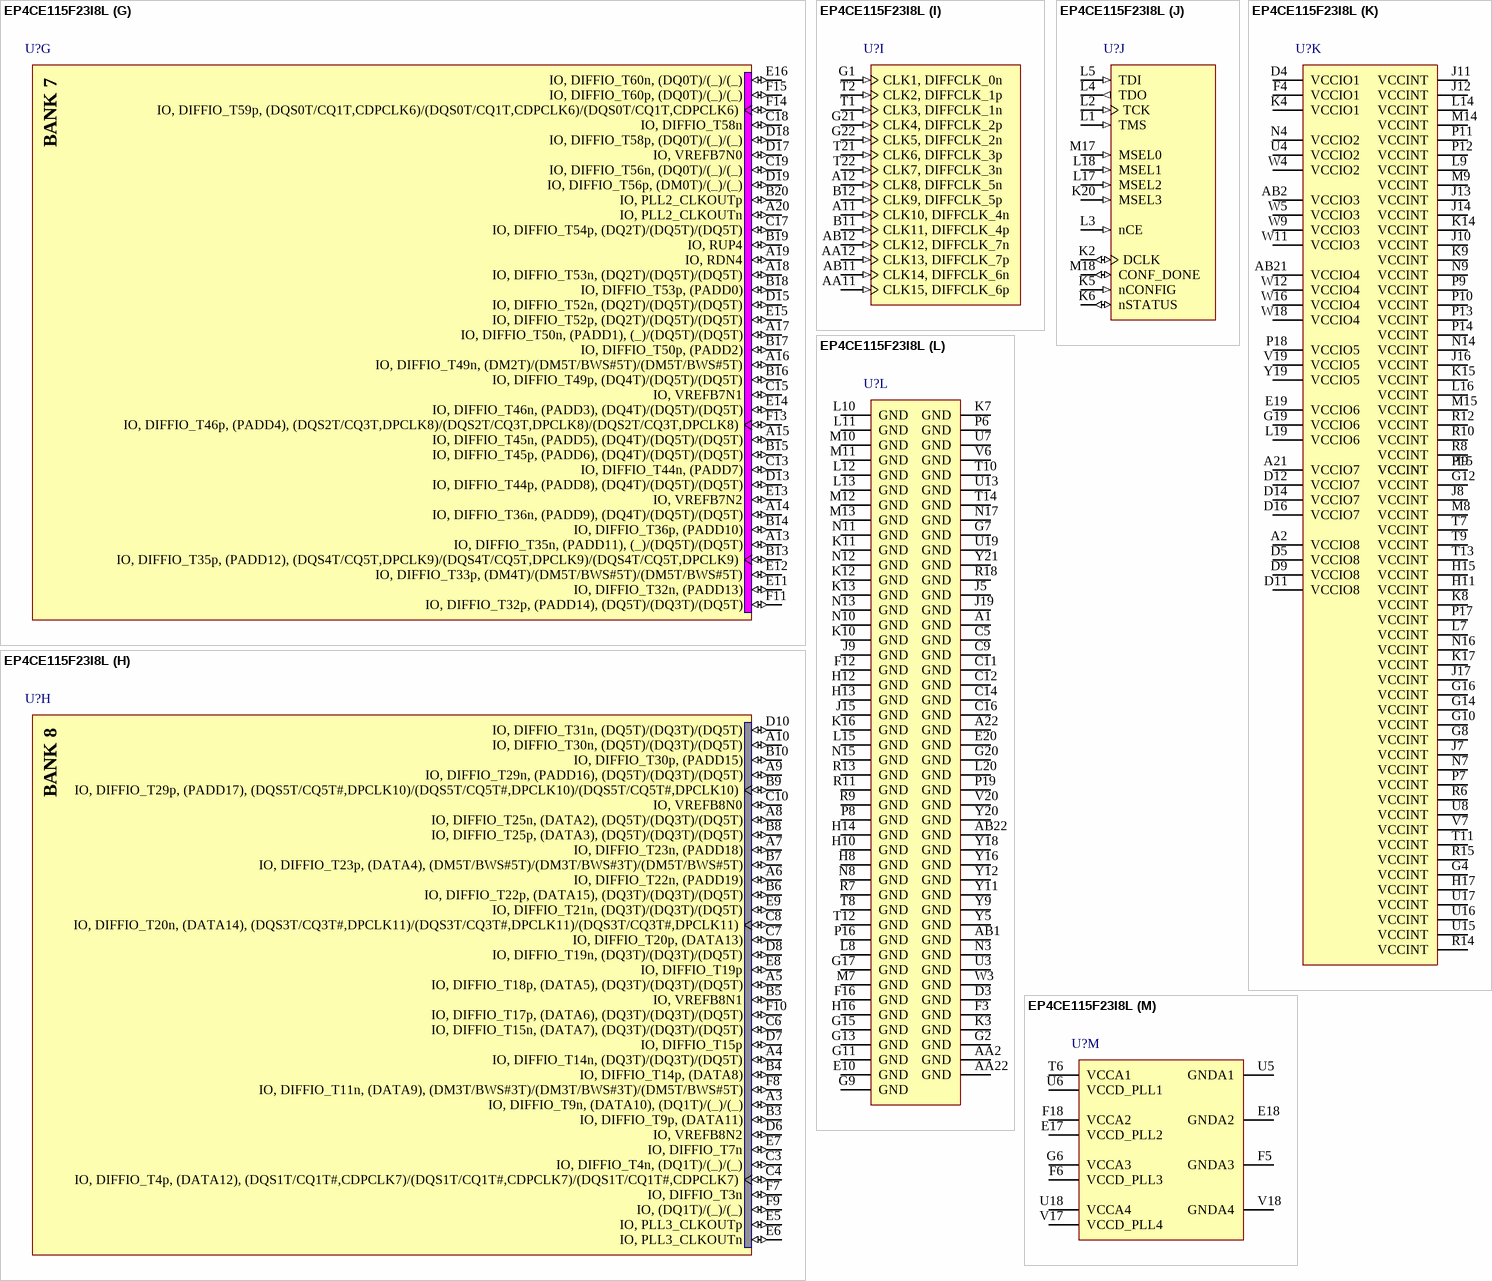
[diagram p26: symbol EP4CE115F23I8L]